# Altium integrated library Renesas Microcontroller H8.IntLib: 489 symbols (part 16 of 25)
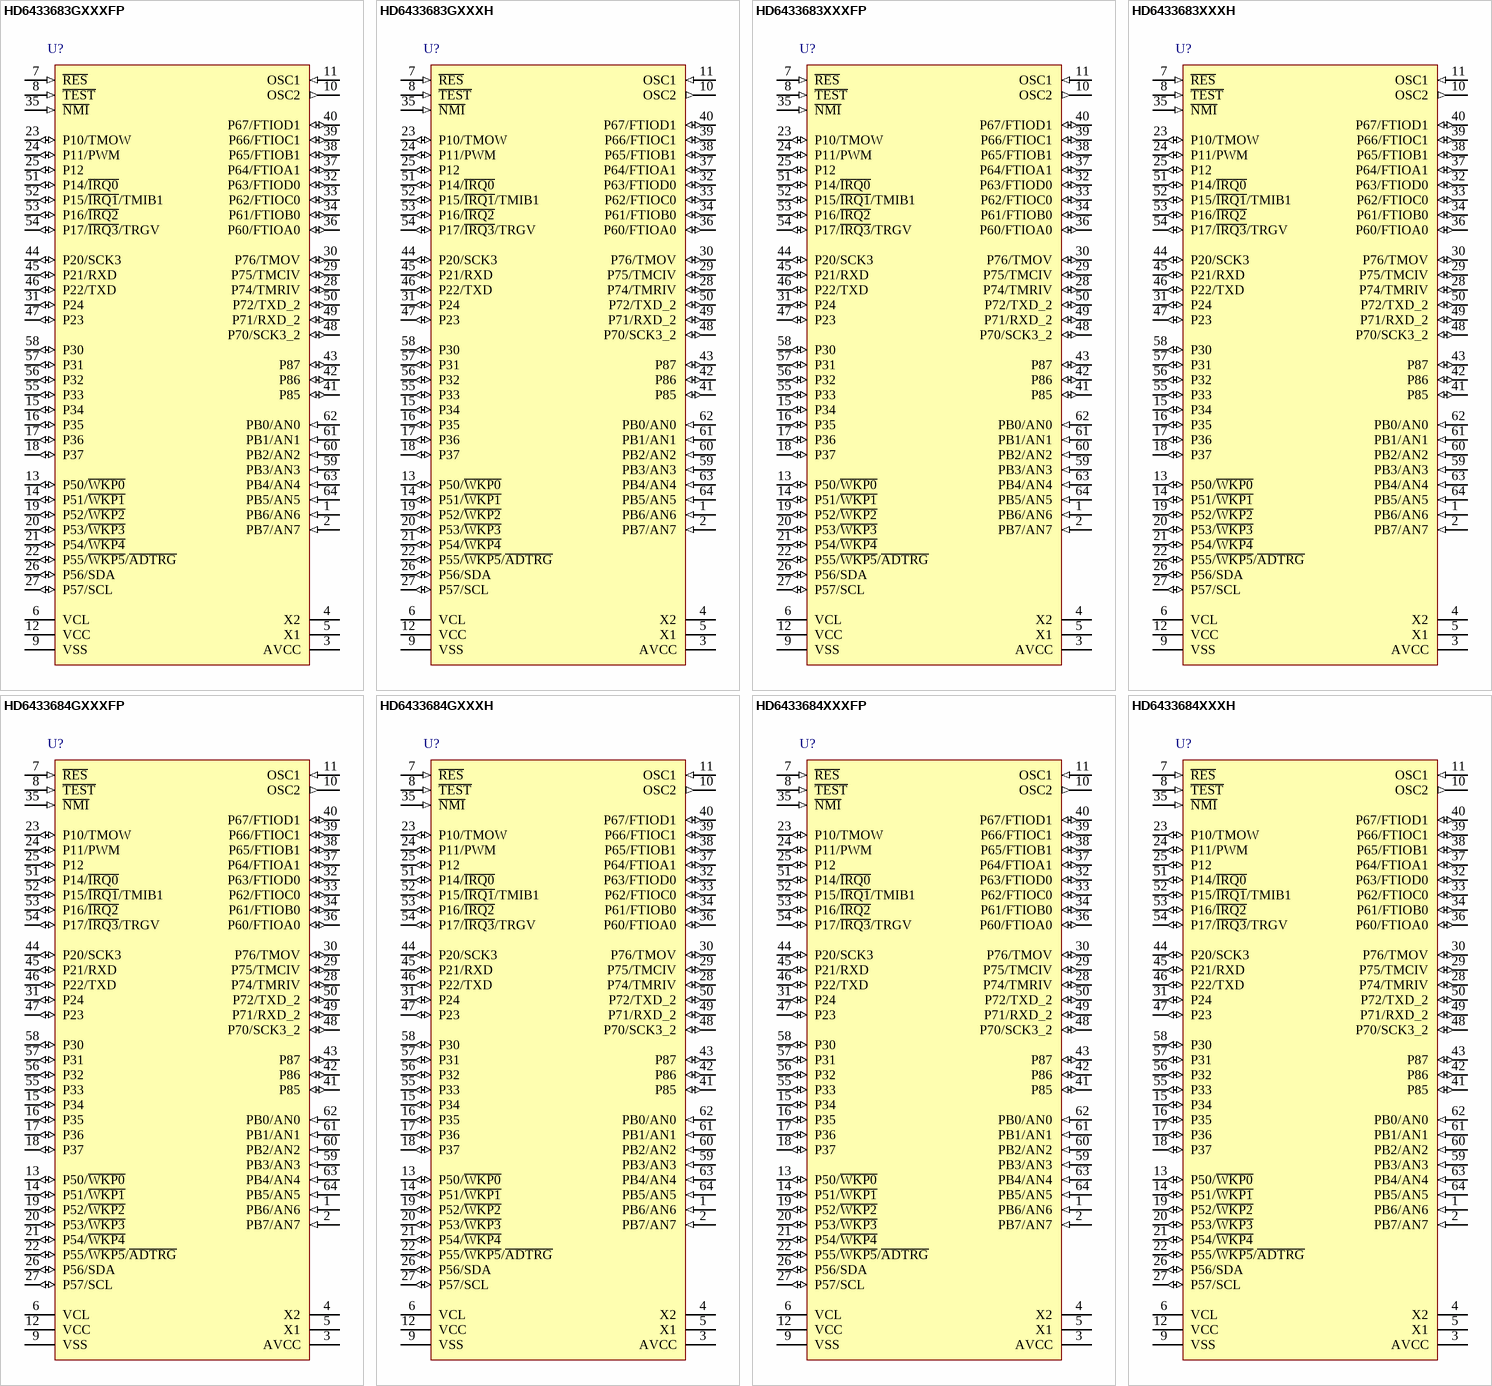
[diagram p103: symbols HD6433683GXXXFP to HD6433684XXXH]

## HD6433684XXXH
designator U?
H8 Family 32/16-bit CISC, H8/300H Tiny, 32K ROM, 3K RAM, 1 to 10MHz, 2.7 to 5.5V, 64-Pin QFP; Published: 28-Aug-2009; DatasheetVersion: Rev.5.00, Nov-2005; PackageVersion: Sep-2005; PackageReference: PRQP0064GB-A; Publisher: Altium Limited; PackageDescription: 64-Pin Plastic Quad Flat Pack, 14 x 14 x 2.7 mm Body, 0.8 mm Pitch; Code_JEITA: P-QFP64-14x14-0.80; ComponentLink1Description: Manufacturer Link; ComponentLink1URL: http://sg.renesas.com/fmwk.jsp?cnt=h8_family_landing.jsp&fp=/products/mpumcu/h8_family/; ComponentLink2Description: Datasheet; ComponentLink2URL: http://documentation.renesas.com/eng/products/mpumcu/rej09b0027_h83687.pdf; ComponentLink3Description: Packaging Specification; ComponentLink3URL: http://sg.renesas.com/media/products/common_info/package/pdf/ic/code/prqp0064gb_a.pdf
footprint PRQP0064GB-A_N (QFP, 64-Leads, Body 14x14mm, Pitch 0.8mm, IPC Medium Density)
footprint PRQP0064GB-A_L (QFP, 64-Leads, Body 14x14mm, Pitch 0.8mm, IPC High Density)
footprint PRQP0064GB-A_M (QFP, 64-Leads, Body 14x14mm, Pitch 0.8mm, IPC Low Density)
pins: 1 PB6/AN6 (in), 2 PB7/AN7 (in), 3 AVCC (power), 4 X2, 5 X1, 6 VCL (power), 7 ~{RES} (in), 8 ~{TEST} (in), 9 VSS (power), 10 OSC2 (out), 11 OSC1 (in), 12 VCC (power), 13 P50/~{WKP0} (io), 14 P51/~{WKP1} (io), 15 P34 (io), 16 P35 (io), 17 P36 (io), 18 P37 (io), 19 P52/~{WKP2} (io), 20 P53/~{WKP3} (io), 21 P54/~{WKP4} (io), 22 P55/~{WKP5}/~{ADTRG} (io), 23 P10/TMOW (io), 24 P11/PWM (io), 25 P12 (io), 26 P56/SDA (io), 27 P57/SCL (io), 28 P74/TMRIV (io), 29 P75/TMCIV (io), 30 P76/TMOV (io), 31 P24 (io), 32 P63/FTIOD0 (io), 33 P62/FTIOC0 (io), 34 P61/FTIOB0 (io), 35 ~{NMI} (in), 36 P60/FTIOA0 (io), 37 P64/FTIOA1 (io), 38 P65/FTIOB1 (io), 39 P66/FTIOC1 (io), 40 P67/FTIOD1 (io), 41 P85 (io), 42 P86 (io), 43 P87 (io), 44 P20/SCK3 (io), 45 P21/RXD (io), 46 P22/TXD (io), 47 P23 (io), 48 P70/SCK3_2 (io), 49 P71/RXD_2 (io), 50 P72/TXD_2 (io), 51 P14/~{IRQ0} (io), 52 P15/~{IRQ1}/TMIB1 (io), 53 P16/~{IRQ2} (io), 54 P17/~{IRQ3}/TRGV (io), 55 P33 (io), 56 P32 (io), 57 P31 (io), 58 P30 (io), 59 PB3/AN3 (in), 60 PB2/AN2 (in), 61 PB1/AN1 (in), 62 PB0/AN0 (in), 63 PB4/AN4 (in), 64 PB5/AN5 (in)

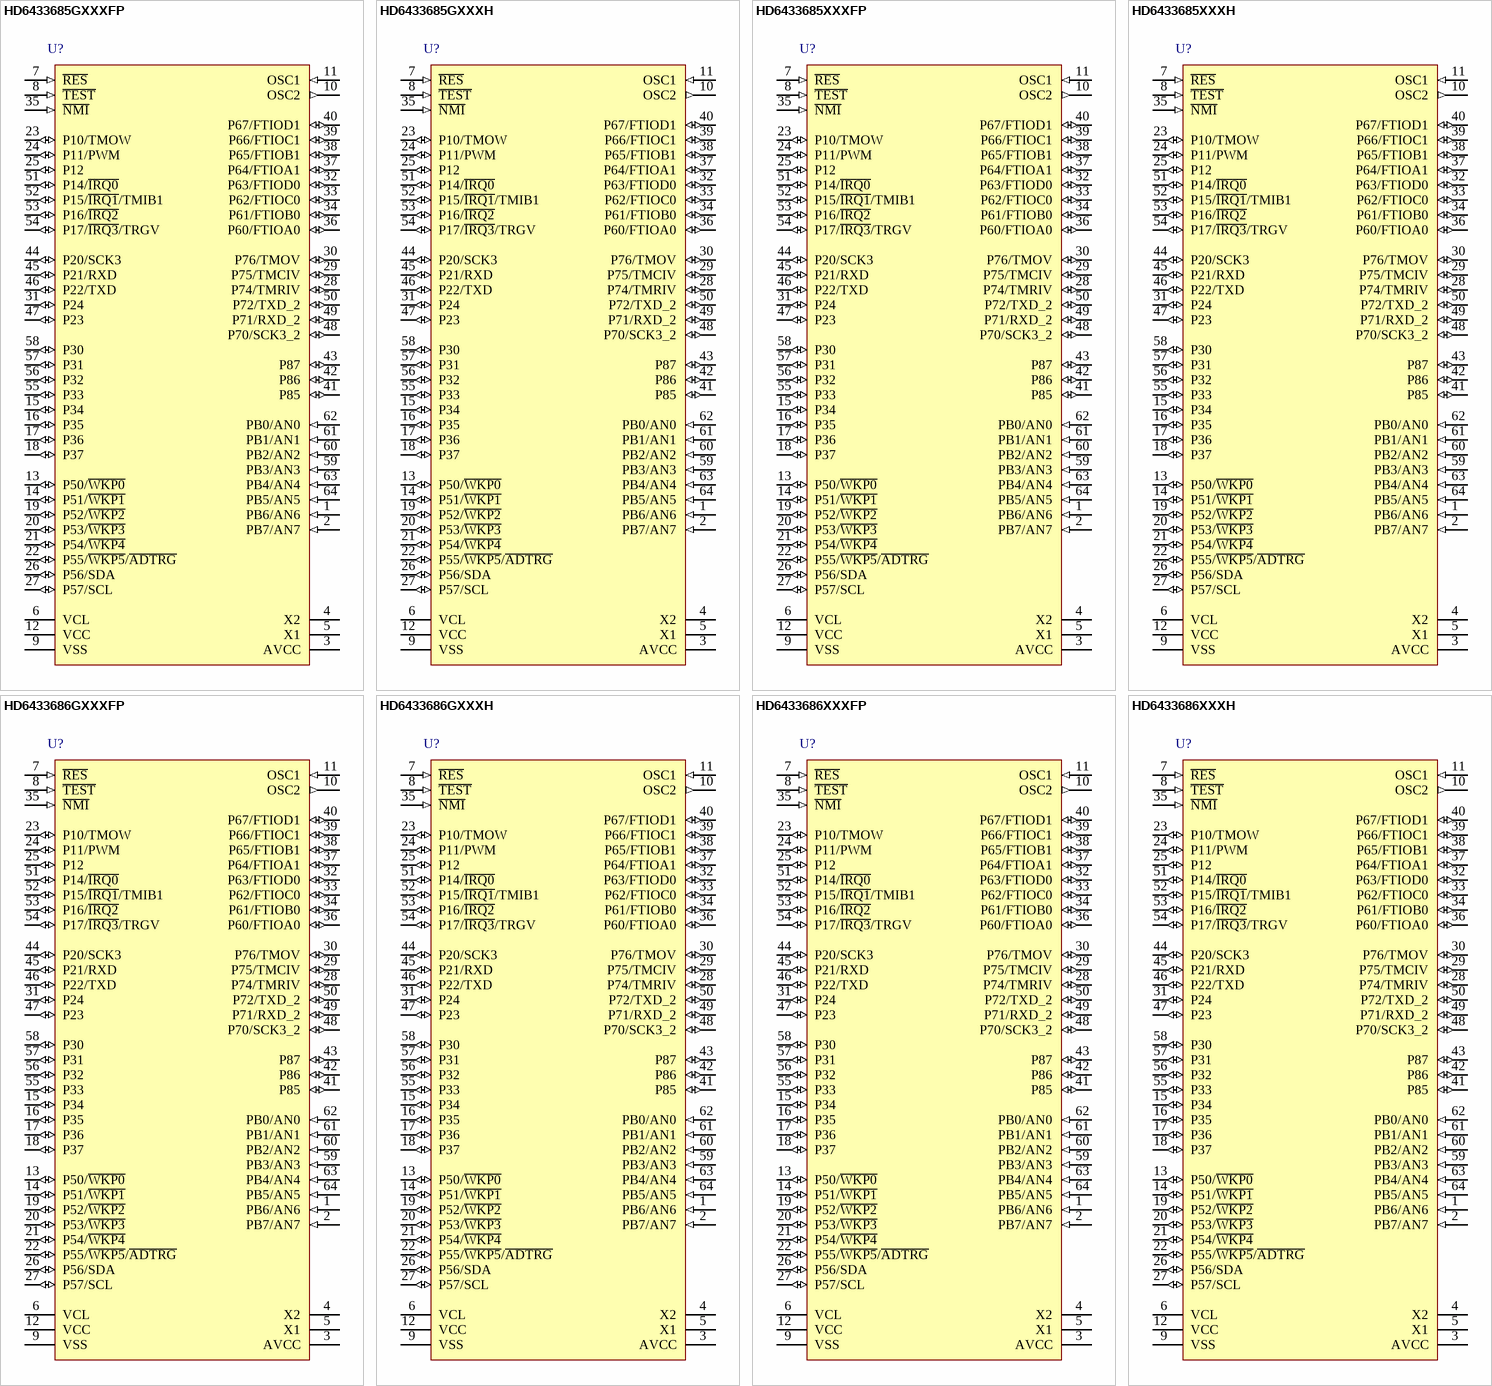
[diagram p57: symbols HD6433685GXXXFP to HD6433686XXXH]

## HD6433685GXXXFP
designator U?
H8 Family 32/16-bit CISC, H8/300H Tiny, 40K ROM, 3K RAM, 1 to 10MHz, 2.7 to 5.5V, 64-Pin QFP; Published: 28-Aug-2009; DatasheetVersion: Rev.5.00, Nov-2005; PackageVersion: Sep-2005; PackageReference: PLQP0064KC-A; Publisher: Altium Limited; PackageDescription: 64-Pin Plastic Low Profile QFP, 10 x 10 x 1.45 mm Body, 0.5 mm Pitch; Code_JEITA: P-LQFP64-10x10-0.50; Code_IPC: SQFP50P1200X1200-64; ComponentLink1Description: Manufacturer Link; ComponentLink1URL: http://sg.renesas.com/fmwk.jsp?cnt=h8_family_landing.jsp&fp=/products/mpumcu/h8_family/; ComponentLink2Description: Datasheet; ComponentLink2URL: http://documentation.renesas.com/eng/products/mpumcu/rej09b0027_h83687.pdf; ComponentLink3Description: Packaging Specification; ComponentLink3URL: http://sg.renesas.com/media/products/common_info/package/pdf/ic/code/plqp0064kc_a.pdf
footprint PLQP0064KC-A_N (Shrink QFP, 64-Leads, Body 10x10mm, Pitch 0.5mm, IPC Medium Density)
footprint PLQP0064KC-A_L (Shrink QFP, 64-Leads, Body 10x10mm, Pitch 0.5mm, IPC High Density)
footprint PLQP0064KC-A_M (Shrink QFP, 64-Leads, Body 10x10mm, Pitch 0.5mm, IPC Low Density)
pins: 1 PB6/AN6 (in), 2 PB7/AN7 (in), 3 AVCC (power), 4 X2, 5 X1, 6 VCL (power), 7 ~{RES} (in), 8 ~{TEST} (in), 9 VSS (power), 10 OSC2 (out), 11 OSC1 (in), 12 VCC (power), 13 P50/~{WKP0} (io), 14 P51/~{WKP1} (io), 15 P34 (io), 16 P35 (io), 17 P36 (io), 18 P37 (io), 19 P52/~{WKP2} (io), 20 P53/~{WKP3} (io), 21 P54/~{WKP4} (io), 22 P55/~{WKP5}/~{ADTRG} (io), 23 P10/TMOW (io), 24 P11/PWM (io), 25 P12 (io), 26 P56/SDA (io), 27 P57/SCL (io), 28 P74/TMRIV (io), 29 P75/TMCIV (io), 30 P76/TMOV (io), 31 P24 (io), 32 P63/FTIOD0 (io), 33 P62/FTIOC0 (io), 34 P61/FTIOB0 (io), 35 ~{NMI} (in), 36 P60/FTIOA0 (io), 37 P64/FTIOA1 (io), 38 P65/FTIOB1 (io), 39 P66/FTIOC1 (io), 40 P67/FTIOD1 (io), 41 P85 (io), 42 P86 (io), 43 P87 (io), 44 P20/SCK3 (io), 45 P21/RXD (io), 46 P22/TXD (io), 47 P23 (io), 48 P70/SCK3_2 (io), 49 P71/RXD_2 (io), 50 P72/TXD_2 (io), 51 P14/~{IRQ0} (io), 52 P15/~{IRQ1}/TMIB1 (io), 53 P16/~{IRQ2} (io), 54 P17/~{IRQ3}/TRGV (io), 55 P33 (io), 56 P32 (io), 57 P31 (io), 58 P30 (io), 59 PB3/AN3 (in), 60 PB2/AN2 (in), 61 PB1/AN1 (in), 62 PB0/AN0 (in), 63 PB4/AN4 (in), 64 PB5/AN5 (in)

## HD6433685GXXXH
designator U?
H8 Family 32/16-bit CISC, H8/300H Tiny, 40K ROM, 3K RAM, 1 to 10MHz, 2.7 to 5.5V, 64-Pin QFP; Published: 28-Aug-2009; DatasheetVersion: Rev.5.00, Nov-2005; PackageVersion: Sep-2005; PackageReference: PRQP0064GB-A; Publisher: Altium Limited; PackageDescription: 64-Pin Plastic Quad Flat Pack, 14 x 14 x 2.7 mm Body, 0.8 mm Pitch; Code_JEITA: P-QFP64-14x14-0.80; ComponentLink1Description: Manufacturer Link; ComponentLink1URL: http://sg.renesas.com/fmwk.jsp?cnt=h8_family_landing.jsp&fp=/products/mpumcu/h8_family/; ComponentLink2Description: Datasheet; ComponentLink2URL: http://documentation.renesas.com/eng/products/mpumcu/rej09b0027_h83687.pdf; ComponentLink3Description: Packaging Specification; ComponentLink3URL: http://sg.renesas.com/media/products/common_info/package/pdf/ic/code/prqp0064gb_a.pdf
footprint PRQP0064GB-A_N (QFP, 64-Leads, Body 14x14mm, Pitch 0.8mm, IPC Medium Density)
footprint PRQP0064GB-A_L (QFP, 64-Leads, Body 14x14mm, Pitch 0.8mm, IPC High Density)
footprint PRQP0064GB-A_M (QFP, 64-Leads, Body 14x14mm, Pitch 0.8mm, IPC Low Density)
pins: 1 PB6/AN6 (in), 2 PB7/AN7 (in), 3 AVCC (power), 4 X2, 5 X1, 6 VCL (power), 7 ~{RES} (in), 8 ~{TEST} (in), 9 VSS (power), 10 OSC2 (out), 11 OSC1 (in), 12 VCC (power), 13 P50/~{WKP0} (io), 14 P51/~{WKP1} (io), 15 P34 (io), 16 P35 (io), 17 P36 (io), 18 P37 (io), 19 P52/~{WKP2} (io), 20 P53/~{WKP3} (io), 21 P54/~{WKP4} (io), 22 P55/~{WKP5}/~{ADTRG} (io), 23 P10/TMOW (io), 24 P11/PWM (io), 25 P12 (io), 26 P56/SDA (io), 27 P57/SCL (io), 28 P74/TMRIV (io), 29 P75/TMCIV (io), 30 P76/TMOV (io), 31 P24 (io), 32 P63/FTIOD0 (io), 33 P62/FTIOC0 (io), 34 P61/FTIOB0 (io), 35 ~{NMI} (in), 36 P60/FTIOA0 (io), 37 P64/FTIOA1 (io), 38 P65/FTIOB1 (io), 39 P66/FTIOC1 (io), 40 P67/FTIOD1 (io), 41 P85 (io), 42 P86 (io), 43 P87 (io), 44 P20/SCK3 (io), 45 P21/RXD (io), 46 P22/TXD (io), 47 P23 (io), 48 P70/SCK3_2 (io), 49 P71/RXD_2 (io), 50 P72/TXD_2 (io), 51 P14/~{IRQ0} (io), 52 P15/~{IRQ1}/TMIB1 (io), 53 P16/~{IRQ2} (io), 54 P17/~{IRQ3}/TRGV (io), 55 P33 (io), 56 P32 (io), 57 P31 (io), 58 P30 (io), 59 PB3/AN3 (in), 60 PB2/AN2 (in), 61 PB1/AN1 (in), 62 PB0/AN0 (in), 63 PB4/AN4 (in), 64 PB5/AN5 (in)

## HD6433685XXXFP
designator U?
H8 Family 32/16-bit CISC, H8/300H Tiny, 40K ROM, 3K RAM, 1 to 10MHz, 2.7 to 5.5V, 64-Pin QFP; Published: 28-Aug-2009; DatasheetVersion: Rev.5.00, Nov-2005; PackageVersion: Sep-2005; PackageReference: PLQP0064KC-A; Publisher: Altium Limited; PackageDescription: 64-Pin Plastic Low Profile QFP, 10 x 10 x 1.45 mm Body, 0.5 mm Pitch; Code_JEITA: P-LQFP64-10x10-0.50; Code_IPC: SQFP50P1200X1200-64; ComponentLink1Description: Manufacturer Link; ComponentLink1URL: http://sg.renesas.com/fmwk.jsp?cnt=h8_family_landing.jsp&fp=/products/mpumcu/h8_family/; ComponentLink2Description: Datasheet; ComponentLink2URL: http://documentation.renesas.com/eng/products/mpumcu/rej09b0027_h83687.pdf; ComponentLink3Description: Packaging Specification; ComponentLink3URL: http://sg.renesas.com/media/products/common_info/package/pdf/ic/code/plqp0064kc_a.pdf
footprint PLQP0064KC-A_N (Shrink QFP, 64-Leads, Body 10x10mm, Pitch 0.5mm, IPC Medium Density)
footprint PLQP0064KC-A_L (Shrink QFP, 64-Leads, Body 10x10mm, Pitch 0.5mm, IPC High Density)
footprint PLQP0064KC-A_M (Shrink QFP, 64-Leads, Body 10x10mm, Pitch 0.5mm, IPC Low Density)
pins: 1 PB6/AN6 (in), 2 PB7/AN7 (in), 3 AVCC (power), 4 X2, 5 X1, 6 VCL (power), 7 ~{RES} (in), 8 ~{TEST} (in), 9 VSS (power), 10 OSC2 (out), 11 OSC1 (in), 12 VCC (power), 13 P50/~{WKP0} (io), 14 P51/~{WKP1} (io), 15 P34 (io), 16 P35 (io), 17 P36 (io), 18 P37 (io), 19 P52/~{WKP2} (io), 20 P53/~{WKP3} (io), 21 P54/~{WKP4} (io), 22 P55/~{WKP5}/~{ADTRG} (io), 23 P10/TMOW (io), 24 P11/PWM (io), 25 P12 (io), 26 P56/SDA (io), 27 P57/SCL (io), 28 P74/TMRIV (io), 29 P75/TMCIV (io), 30 P76/TMOV (io), 31 P24 (io), 32 P63/FTIOD0 (io), 33 P62/FTIOC0 (io), 34 P61/FTIOB0 (io), 35 ~{NMI} (in), 36 P60/FTIOA0 (io), 37 P64/FTIOA1 (io), 38 P65/FTIOB1 (io), 39 P66/FTIOC1 (io), 40 P67/FTIOD1 (io), 41 P85 (io), 42 P86 (io), 43 P87 (io), 44 P20/SCK3 (io), 45 P21/RXD (io), 46 P22/TXD (io), 47 P23 (io), 48 P70/SCK3_2 (io), 49 P71/RXD_2 (io), 50 P72/TXD_2 (io), 51 P14/~{IRQ0} (io), 52 P15/~{IRQ1}/TMIB1 (io), 53 P16/~{IRQ2} (io), 54 P17/~{IRQ3}/TRGV (io), 55 P33 (io), 56 P32 (io), 57 P31 (io), 58 P30 (io), 59 PB3/AN3 (in), 60 PB2/AN2 (in), 61 PB1/AN1 (in), 62 PB0/AN0 (in), 63 PB4/AN4 (in), 64 PB5/AN5 (in)

## HD6433685XXXH
designator U?
H8 Family 32/16-bit CISC, H8/300H Tiny, 40K ROM, 3K RAM, 1 to 10MHz, 2.7 to 5.5V, 64-Pin QFP; Published: 28-Aug-2009; DatasheetVersion: Rev.5.00, Nov-2005; PackageVersion: Sep-2005; PackageReference: PRQP0064GB-A; Publisher: Altium Limited; PackageDescription: 64-Pin Plastic Quad Flat Pack, 14 x 14 x 2.7 mm Body, 0.8 mm Pitch; Code_JEITA: P-QFP64-14x14-0.80; ComponentLink1Description: Manufacturer Link; ComponentLink1URL: http://sg.renesas.com/fmwk.jsp?cnt=h8_family_landing.jsp&fp=/products/mpumcu/h8_family/; ComponentLink2Description: Datasheet; ComponentLink2URL: http://documentation.renesas.com/eng/products/mpumcu/rej09b0027_h83687.pdf; ComponentLink3Description: Packaging Specification; ComponentLink3URL: http://sg.renesas.com/media/products/common_info/package/pdf/ic/code/prqp0064gb_a.pdf
footprint PRQP0064GB-A_N (QFP, 64-Leads, Body 14x14mm, Pitch 0.8mm, IPC Medium Density)
footprint PRQP0064GB-A_L (QFP, 64-Leads, Body 14x14mm, Pitch 0.8mm, IPC High Density)
footprint PRQP0064GB-A_M (QFP, 64-Leads, Body 14x14mm, Pitch 0.8mm, IPC Low Density)
pins: 1 PB6/AN6 (in), 2 PB7/AN7 (in), 3 AVCC (power), 4 X2, 5 X1, 6 VCL (power), 7 ~{RES} (in), 8 ~{TEST} (in), 9 VSS (power), 10 OSC2 (out), 11 OSC1 (in), 12 VCC (power), 13 P50/~{WKP0} (io), 14 P51/~{WKP1} (io), 15 P34 (io), 16 P35 (io), 17 P36 (io), 18 P37 (io), 19 P52/~{WKP2} (io), 20 P53/~{WKP3} (io), 21 P54/~{WKP4} (io), 22 P55/~{WKP5}/~{ADTRG} (io), 23 P10/TMOW (io), 24 P11/PWM (io), 25 P12 (io), 26 P56/SDA (io), 27 P57/SCL (io), 28 P74/TMRIV (io), 29 P75/TMCIV (io), 30 P76/TMOV (io), 31 P24 (io), 32 P63/FTIOD0 (io), 33 P62/FTIOC0 (io), 34 P61/FTIOB0 (io), 35 ~{NMI} (in), 36 P60/FTIOA0 (io), 37 P64/FTIOA1 (io), 38 P65/FTIOB1 (io), 39 P66/FTIOC1 (io), 40 P67/FTIOD1 (io), 41 P85 (io), 42 P86 (io), 43 P87 (io), 44 P20/SCK3 (io), 45 P21/RXD (io), 46 P22/TXD (io), 47 P23 (io), 48 P70/SCK3_2 (io), 49 P71/RXD_2 (io), 50 P72/TXD_2 (io), 51 P14/~{IRQ0} (io), 52 P15/~{IRQ1}/TMIB1 (io), 53 P16/~{IRQ2} (io), 54 P17/~{IRQ3}/TRGV (io), 55 P33 (io), 56 P32 (io), 57 P31 (io), 58 P30 (io), 59 PB3/AN3 (in), 60 PB2/AN2 (in), 61 PB1/AN1 (in), 62 PB0/AN0 (in), 63 PB4/AN4 (in), 64 PB5/AN5 (in)

## HD6433686GXXXFP
designator U?
H8 Family 32/16-bit CISC, H8/300H Tiny, 48K ROM, 3K RAM, 1 to 10MHz, 2.7 to 5.5V, 64-Pin QFP; Published: 28-Aug-2009; DatasheetVersion: Rev.5.00, Nov-2005; PackageVersion: Sep-2005; PackageReference: PLQP0064KC-A; Publisher: Altium Limited; PackageDescription: 64-Pin Plastic Low Profile QFP, 10 x 10 x 1.45 mm Body, 0.5 mm Pitch; Code_JEITA: P-LQFP64-10x10-0.50; Code_IPC: SQFP50P1200X1200-64; ComponentLink1Description: Manufacturer Link; ComponentLink1URL: http://sg.renesas.com/fmwk.jsp?cnt=h8_family_landing.jsp&fp=/products/mpumcu/h8_family/; ComponentLink2Description: Datasheet; ComponentLink2URL: http://documentation.renesas.com/eng/products/mpumcu/rej09b0027_h83687.pdf; ComponentLink3Description: Packaging Specification; ComponentLink3URL: http://sg.renesas.com/media/products/common_info/package/pdf/ic/code/plqp0064kc_a.pdf
footprint PLQP0064KC-A_N (Shrink QFP, 64-Leads, Body 10x10mm, Pitch 0.5mm, IPC Medium Density)
footprint PLQP0064KC-A_L (Shrink QFP, 64-Leads, Body 10x10mm, Pitch 0.5mm, IPC High Density)
footprint PLQP0064KC-A_M (Shrink QFP, 64-Leads, Body 10x10mm, Pitch 0.5mm, IPC Low Density)
pins: 1 PB6/AN6 (in), 2 PB7/AN7 (in), 3 AVCC (power), 4 X2, 5 X1, 6 VCL (power), 7 ~{RES} (in), 8 ~{TEST} (in), 9 VSS (power), 10 OSC2 (out), 11 OSC1 (in), 12 VCC (power), 13 P50/~{WKP0} (io), 14 P51/~{WKP1} (io), 15 P34 (io), 16 P35 (io), 17 P36 (io), 18 P37 (io), 19 P52/~{WKP2} (io), 20 P53/~{WKP3} (io), 21 P54/~{WKP4} (io), 22 P55/~{WKP5}/~{ADTRG} (io), 23 P10/TMOW (io), 24 P11/PWM (io), 25 P12 (io), 26 P56/SDA (io), 27 P57/SCL (io), 28 P74/TMRIV (io), 29 P75/TMCIV (io), 30 P76/TMOV (io), 31 P24 (io), 32 P63/FTIOD0 (io), 33 P62/FTIOC0 (io), 34 P61/FTIOB0 (io), 35 ~{NMI} (in), 36 P60/FTIOA0 (io), 37 P64/FTIOA1 (io), 38 P65/FTIOB1 (io), 39 P66/FTIOC1 (io), 40 P67/FTIOD1 (io), 41 P85 (io), 42 P86 (io), 43 P87 (io), 44 P20/SCK3 (io), 45 P21/RXD (io), 46 P22/TXD (io), 47 P23 (io), 48 P70/SCK3_2 (io), 49 P71/RXD_2 (io), 50 P72/TXD_2 (io), 51 P14/~{IRQ0} (io), 52 P15/~{IRQ1}/TMIB1 (io), 53 P16/~{IRQ2} (io), 54 P17/~{IRQ3}/TRGV (io), 55 P33 (io), 56 P32 (io), 57 P31 (io), 58 P30 (io), 59 PB3/AN3 (in), 60 PB2/AN2 (in), 61 PB1/AN1 (in), 62 PB0/AN0 (in), 63 PB4/AN4 (in), 64 PB5/AN5 (in)

## HD6433686GXXXH
designator U?
H8 Family 32/16-bit CISC, H8/300H Tiny, 48K ROM, 3K RAM, 1 to 10MHz, 2.7 to 5.5V, 64-Pin QFP; Published: 28-Aug-2009; DatasheetVersion: Rev.5.00, Nov-2005; PackageVersion: Sep-2005; PackageReference: PRQP0064GB-A; Publisher: Altium Limited; PackageDescription: 64-Pin Plastic Quad Flat Pack, 14 x 14 x 2.7 mm Body, 0.8 mm Pitch; Code_JEITA: P-QFP64-14x14-0.80; ComponentLink1Description: Manufacturer Link; ComponentLink1URL: http://sg.renesas.com/fmwk.jsp?cnt=h8_family_landing.jsp&fp=/products/mpumcu/h8_family/; ComponentLink2Description: Datasheet; ComponentLink2URL: http://documentation.renesas.com/eng/products/mpumcu/rej09b0027_h83687.pdf; ComponentLink3Description: Packaging Specification; ComponentLink3URL: http://sg.renesas.com/media/products/common_info/package/pdf/ic/code/prqp0064gb_a.pdf
footprint PRQP0064GB-A_N (QFP, 64-Leads, Body 14x14mm, Pitch 0.8mm, IPC Medium Density)
footprint PRQP0064GB-A_L (QFP, 64-Leads, Body 14x14mm, Pitch 0.8mm, IPC High Density)
footprint PRQP0064GB-A_M (QFP, 64-Leads, Body 14x14mm, Pitch 0.8mm, IPC Low Density)
pins: 1 PB6/AN6 (in), 2 PB7/AN7 (in), 3 AVCC (power), 4 X2, 5 X1, 6 VCL (power), 7 ~{RES} (in), 8 ~{TEST} (in), 9 VSS (power), 10 OSC2 (out), 11 OSC1 (in), 12 VCC (power), 13 P50/~{WKP0} (io), 14 P51/~{WKP1} (io), 15 P34 (io), 16 P35 (io), 17 P36 (io), 18 P37 (io), 19 P52/~{WKP2} (io), 20 P53/~{WKP3} (io), 21 P54/~{WKP4} (io), 22 P55/~{WKP5}/~{ADTRG} (io), 23 P10/TMOW (io), 24 P11/PWM (io), 25 P12 (io), 26 P56/SDA (io), 27 P57/SCL (io), 28 P74/TMRIV (io), 29 P75/TMCIV (io), 30 P76/TMOV (io), 31 P24 (io), 32 P63/FTIOD0 (io), 33 P62/FTIOC0 (io), 34 P61/FTIOB0 (io), 35 ~{NMI} (in), 36 P60/FTIOA0 (io), 37 P64/FTIOA1 (io), 38 P65/FTIOB1 (io), 39 P66/FTIOC1 (io), 40 P67/FTIOD1 (io), 41 P85 (io), 42 P86 (io), 43 P87 (io), 44 P20/SCK3 (io), 45 P21/RXD (io), 46 P22/TXD (io), 47 P23 (io), 48 P70/SCK3_2 (io), 49 P71/RXD_2 (io), 50 P72/TXD_2 (io), 51 P14/~{IRQ0} (io), 52 P15/~{IRQ1}/TMIB1 (io), 53 P16/~{IRQ2} (io), 54 P17/~{IRQ3}/TRGV (io), 55 P33 (io), 56 P32 (io), 57 P31 (io), 58 P30 (io), 59 PB3/AN3 (in), 60 PB2/AN2 (in), 61 PB1/AN1 (in), 62 PB0/AN0 (in), 63 PB4/AN4 (in), 64 PB5/AN5 (in)

## HD6433686XXXFP
designator U?
H8 Family 32/16-bit CISC, H8/300H Tiny, 48K ROM, 3K RAM, 1 to 10MHz, 2.7 to 5.5V, 64-Pin QFP; Published: 28-Aug-2009; DatasheetVersion: Rev.5.00, Nov-2005; PackageVersion: Sep-2005; PackageReference: PLQP0064KC-A; Publisher: Altium Limited; PackageDescription: 64-Pin Plastic Low Profile QFP, 10 x 10 x 1.45 mm Body, 0.5 mm Pitch; Code_JEITA: P-LQFP64-10x10-0.50; Code_IPC: SQFP50P1200X1200-64; ComponentLink1Description: Manufacturer Link; ComponentLink1URL: http://sg.renesas.com/fmwk.jsp?cnt=h8_family_landing.jsp&fp=/products/mpumcu/h8_family/; ComponentLink2Description: Datasheet; ComponentLink2URL: http://documentation.renesas.com/eng/products/mpumcu/rej09b0027_h83687.pdf; ComponentLink3Description: Packaging Specification; ComponentLink3URL: http://sg.renesas.com/media/products/common_info/package/pdf/ic/code/plqp0064kc_a.pdf
footprint PLQP0064KC-A_N (Shrink QFP, 64-Leads, Body 10x10mm, Pitch 0.5mm, IPC Medium Density)
footprint PLQP0064KC-A_L (Shrink QFP, 64-Leads, Body 10x10mm, Pitch 0.5mm, IPC High Density)
footprint PLQP0064KC-A_M (Shrink QFP, 64-Leads, Body 10x10mm, Pitch 0.5mm, IPC Low Density)
pins: 1 PB6/AN6 (in), 2 PB7/AN7 (in), 3 AVCC (power), 4 X2, 5 X1, 6 VCL (power), 7 ~{RES} (in), 8 ~{TEST} (in), 9 VSS (power), 10 OSC2 (out), 11 OSC1 (in), 12 VCC (power), 13 P50/~{WKP0} (io), 14 P51/~{WKP1} (io), 15 P34 (io), 16 P35 (io), 17 P36 (io), 18 P37 (io), 19 P52/~{WKP2} (io), 20 P53/~{WKP3} (io), 21 P54/~{WKP4} (io), 22 P55/~{WKP5}/~{ADTRG} (io), 23 P10/TMOW (io), 24 P11/PWM (io), 25 P12 (io), 26 P56/SDA (io), 27 P57/SCL (io), 28 P74/TMRIV (io), 29 P75/TMCIV (io), 30 P76/TMOV (io), 31 P24 (io), 32 P63/FTIOD0 (io), 33 P62/FTIOC0 (io), 34 P61/FTIOB0 (io), 35 ~{NMI} (in), 36 P60/FTIOA0 (io), 37 P64/FTIOA1 (io), 38 P65/FTIOB1 (io), 39 P66/FTIOC1 (io), 40 P67/FTIOD1 (io), 41 P85 (io), 42 P86 (io), 43 P87 (io), 44 P20/SCK3 (io), 45 P21/RXD (io), 46 P22/TXD (io), 47 P23 (io), 48 P70/SCK3_2 (io), 49 P71/RXD_2 (io), 50 P72/TXD_2 (io), 51 P14/~{IRQ0} (io), 52 P15/~{IRQ1}/TMIB1 (io), 53 P16/~{IRQ2} (io), 54 P17/~{IRQ3}/TRGV (io), 55 P33 (io), 56 P32 (io), 57 P31 (io), 58 P30 (io), 59 PB3/AN3 (in), 60 PB2/AN2 (in), 61 PB1/AN1 (in), 62 PB0/AN0 (in), 63 PB4/AN4 (in), 64 PB5/AN5 (in)

## HD6433686XXXH
designator U?
H8 Family 32/16-bit CISC, H8/300H Tiny, 48K ROM, 3K RAM, 1 to 10MHz, 2.7 to 5.5V, 64-Pin QFP; Published: 28-Aug-2009; DatasheetVersion: Rev.5.00, Nov-2005; PackageVersion: Sep-2005; PackageReference: PRQP0064GB-A; Publisher: Altium Limited; PackageDescription: 64-Pin Plastic Quad Flat Pack, 14 x 14 x 2.7 mm Body, 0.8 mm Pitch; Code_JEITA: P-QFP64-14x14-0.80; ComponentLink1Description: Manufacturer Link; ComponentLink1URL: http://sg.renesas.com/fmwk.jsp?cnt=h8_family_landing.jsp&fp=/products/mpumcu/h8_family/; ComponentLink2Description: Datasheet; ComponentLink2URL: http://documentation.renesas.com/eng/products/mpumcu/rej09b0027_h83687.pdf; ComponentLink3Description: Packaging Specification; ComponentLink3URL: http://sg.renesas.com/media/products/common_info/package/pdf/ic/code/prqp0064gb_a.pdf
footprint PRQP0064GB-A_N (QFP, 64-Leads, Body 14x14mm, Pitch 0.8mm, IPC Medium Density)
footprint PRQP0064GB-A_L (QFP, 64-Leads, Body 14x14mm, Pitch 0.8mm, IPC High Density)
footprint PRQP0064GB-A_M (QFP, 64-Leads, Body 14x14mm, Pitch 0.8mm, IPC Low Density)
pins: 1 PB6/AN6 (in), 2 PB7/AN7 (in), 3 AVCC (power), 4 X2, 5 X1, 6 VCL (power), 7 ~{RES} (in), 8 ~{TEST} (in), 9 VSS (power), 10 OSC2 (out), 11 OSC1 (in), 12 VCC (power), 13 P50/~{WKP0} (io), 14 P51/~{WKP1} (io), 15 P34 (io), 16 P35 (io), 17 P36 (io), 18 P37 (io), 19 P52/~{WKP2} (io), 20 P53/~{WKP3} (io), 21 P54/~{WKP4} (io), 22 P55/~{WKP5}/~{ADTRG} (io), 23 P10/TMOW (io), 24 P11/PWM (io), 25 P12 (io), 26 P56/SDA (io), 27 P57/SCL (io), 28 P74/TMRIV (io), 29 P75/TMCIV (io), 30 P76/TMOV (io), 31 P24 (io), 32 P63/FTIOD0 (io), 33 P62/FTIOC0 (io), 34 P61/FTIOB0 (io), 35 ~{NMI} (in), 36 P60/FTIOA0 (io), 37 P64/FTIOA1 (io), 38 P65/FTIOB1 (io), 39 P66/FTIOC1 (io), 40 P67/FTIOD1 (io), 41 P85 (io), 42 P86 (io), 43 P87 (io), 44 P20/SCK3 (io), 45 P21/RXD (io), 46 P22/TXD (io), 47 P23 (io), 48 P70/SCK3_2 (io), 49 P71/RXD_2 (io), 50 P72/TXD_2 (io), 51 P14/~{IRQ0} (io), 52 P15/~{IRQ1}/TMIB1 (io), 53 P16/~{IRQ2} (io), 54 P17/~{IRQ3}/TRGV (io), 55 P33 (io), 56 P32 (io), 57 P31 (io), 58 P30 (io), 59 PB3/AN3 (in), 60 PB2/AN2 (in), 61 PB1/AN1 (in), 62 PB0/AN0 (in), 63 PB4/AN4 (in), 64 PB5/AN5 (in)

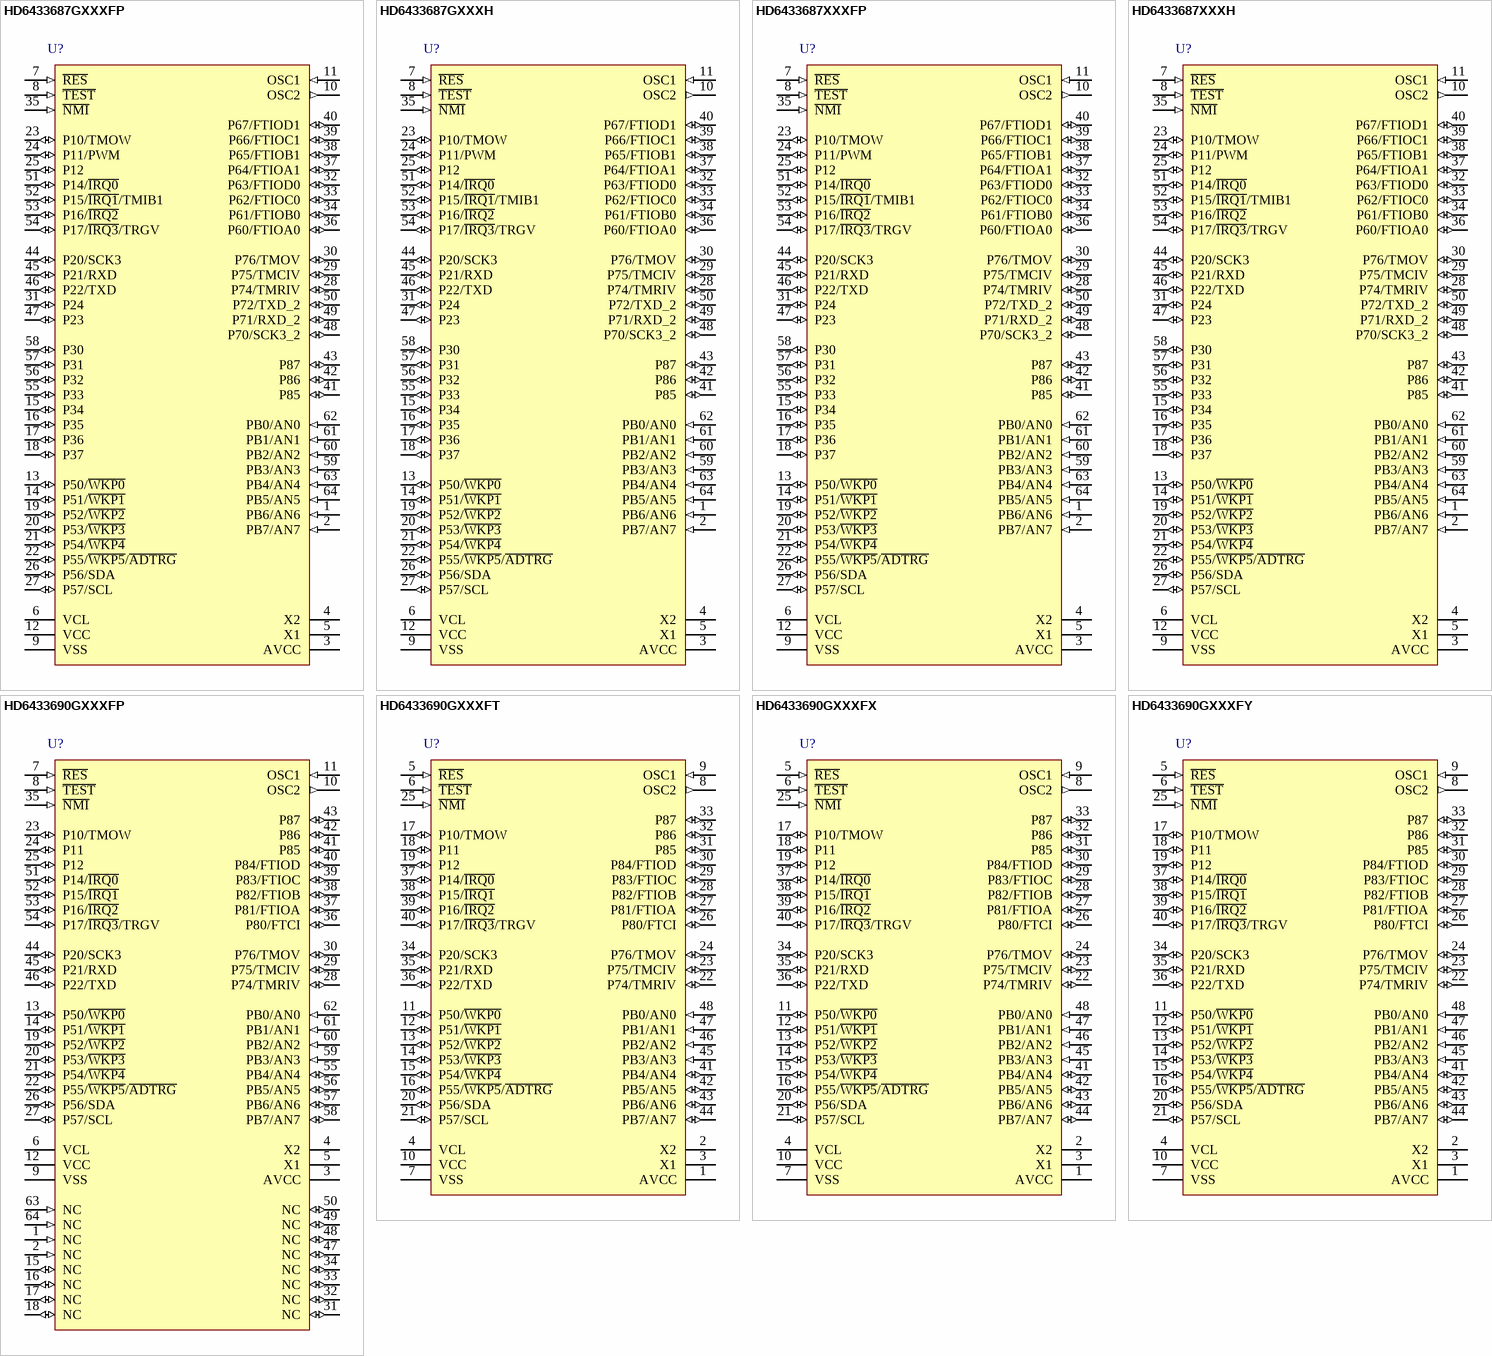
[diagram p58: symbols HD6433687GXXXFP to HD6433690GXXXFY]

## HD6433687GXXXFP
designator U?
H8 Family 32/16-bit CISC, H8/300H Tiny, 56K ROM, 3K RAM, 1 to 10MHz, 2.7 to 5.5V, 64-Pin QFP; Published: 28-Aug-2009; DatasheetVersion: Rev.5.00, Nov-2005; PackageVersion: Sep-2005; PackageReference: PLQP0064KC-A; Publisher: Altium Limited; PackageDescription: 64-Pin Plastic Low Profile QFP, 10 x 10 x 1.45 mm Body, 0.5 mm Pitch; Code_JEITA: P-LQFP64-10x10-0.50; Code_IPC: SQFP50P1200X1200-64; ComponentLink1Description: Manufacturer Link; ComponentLink1URL: http://sg.renesas.com/fmwk.jsp?cnt=h8_family_landing.jsp&fp=/products/mpumcu/h8_family/; ComponentLink2Description: Datasheet; ComponentLink2URL: http://documentation.renesas.com/eng/products/mpumcu/rej09b0027_h83687.pdf; ComponentLink3Description: Packaging Specification; ComponentLink3URL: http://sg.renesas.com/media/products/common_info/package/pdf/ic/code/plqp0064kc_a.pdf
footprint PLQP0064KC-A_N (Shrink QFP, 64-Leads, Body 10x10mm, Pitch 0.5mm, IPC Medium Density)
footprint PLQP0064KC-A_L (Shrink QFP, 64-Leads, Body 10x10mm, Pitch 0.5mm, IPC High Density)
footprint PLQP0064KC-A_M (Shrink QFP, 64-Leads, Body 10x10mm, Pitch 0.5mm, IPC Low Density)
pins: 1 PB6/AN6 (in), 2 PB7/AN7 (in), 3 AVCC (power), 4 X2, 5 X1, 6 VCL (power), 7 ~{RES} (in), 8 ~{TEST} (in), 9 VSS (power), 10 OSC2 (out), 11 OSC1 (in), 12 VCC (power), 13 P50/~{WKP0} (io), 14 P51/~{WKP1} (io), 15 P34 (io), 16 P35 (io), 17 P36 (io), 18 P37 (io), 19 P52/~{WKP2} (io), 20 P53/~{WKP3} (io), 21 P54/~{WKP4} (io), 22 P55/~{WKP5}/~{ADTRG} (io), 23 P10/TMOW (io), 24 P11/PWM (io), 25 P12 (io), 26 P56/SDA (io), 27 P57/SCL (io), 28 P74/TMRIV (io), 29 P75/TMCIV (io), 30 P76/TMOV (io), 31 P24 (io), 32 P63/FTIOD0 (io), 33 P62/FTIOC0 (io), 34 P61/FTIOB0 (io), 35 ~{NMI} (in), 36 P60/FTIOA0 (io), 37 P64/FTIOA1 (io), 38 P65/FTIOB1 (io), 39 P66/FTIOC1 (io), 40 P67/FTIOD1 (io), 41 P85 (io), 42 P86 (io), 43 P87 (io), 44 P20/SCK3 (io), 45 P21/RXD (io), 46 P22/TXD (io), 47 P23 (io), 48 P70/SCK3_2 (io), 49 P71/RXD_2 (io), 50 P72/TXD_2 (io), 51 P14/~{IRQ0} (io), 52 P15/~{IRQ1}/TMIB1 (io), 53 P16/~{IRQ2} (io), 54 P17/~{IRQ3}/TRGV (io), 55 P33 (io), 56 P32 (io), 57 P31 (io), 58 P30 (io), 59 PB3/AN3 (in), 60 PB2/AN2 (in), 61 PB1/AN1 (in), 62 PB0/AN0 (in), 63 PB4/AN4 (in), 64 PB5/AN5 (in)

## HD6433687GXXXH
designator U?
H8 Family 32/16-bit CISC, H8/300H Tiny, 56K ROM, 3K RAM, 1 to 10MHz, 2.7 to 5.5V, 64-Pin QFP; Published: 28-Aug-2009; DatasheetVersion: Rev.5.00, Nov-2005; PackageVersion: Sep-2005; PackageReference: PRQP0064GB-A; Publisher: Altium Limited; PackageDescription: 64-Pin Plastic Quad Flat Pack, 14 x 14 x 2.7 mm Body, 0.8 mm Pitch; Code_JEITA: P-QFP64-14x14-0.80; ComponentLink1Description: Manufacturer Link; ComponentLink1URL: http://sg.renesas.com/fmwk.jsp?cnt=h8_family_landing.jsp&fp=/products/mpumcu/h8_family/; ComponentLink2Description: Datasheet; ComponentLink2URL: http://documentation.renesas.com/eng/products/mpumcu/rej09b0027_h83687.pdf; ComponentLink3Description: Packaging Specification; ComponentLink3URL: http://sg.renesas.com/media/products/common_info/package/pdf/ic/code/prqp0064gb_a.pdf
footprint PRQP0064GB-A_N (QFP, 64-Leads, Body 14x14mm, Pitch 0.8mm, IPC Medium Density)
footprint PRQP0064GB-A_L (QFP, 64-Leads, Body 14x14mm, Pitch 0.8mm, IPC High Density)
footprint PRQP0064GB-A_M (QFP, 64-Leads, Body 14x14mm, Pitch 0.8mm, IPC Low Density)
pins: 1 PB6/AN6 (in), 2 PB7/AN7 (in), 3 AVCC (power), 4 X2, 5 X1, 6 VCL (power), 7 ~{RES} (in), 8 ~{TEST} (in), 9 VSS (power), 10 OSC2 (out), 11 OSC1 (in), 12 VCC (power), 13 P50/~{WKP0} (io), 14 P51/~{WKP1} (io), 15 P34 (io), 16 P35 (io), 17 P36 (io), 18 P37 (io), 19 P52/~{WKP2} (io), 20 P53/~{WKP3} (io), 21 P54/~{WKP4} (io), 22 P55/~{WKP5}/~{ADTRG} (io), 23 P10/TMOW (io), 24 P11/PWM (io), 25 P12 (io), 26 P56/SDA (io), 27 P57/SCL (io), 28 P74/TMRIV (io), 29 P75/TMCIV (io), 30 P76/TMOV (io), 31 P24 (io), 32 P63/FTIOD0 (io), 33 P62/FTIOC0 (io), 34 P61/FTIOB0 (io), 35 ~{NMI} (in), 36 P60/FTIOA0 (io), 37 P64/FTIOA1 (io), 38 P65/FTIOB1 (io), 39 P66/FTIOC1 (io), 40 P67/FTIOD1 (io), 41 P85 (io), 42 P86 (io), 43 P87 (io), 44 P20/SCK3 (io), 45 P21/RXD (io), 46 P22/TXD (io), 47 P23 (io), 48 P70/SCK3_2 (io), 49 P71/RXD_2 (io), 50 P72/TXD_2 (io), 51 P14/~{IRQ0} (io), 52 P15/~{IRQ1}/TMIB1 (io), 53 P16/~{IRQ2} (io), 54 P17/~{IRQ3}/TRGV (io), 55 P33 (io), 56 P32 (io), 57 P31 (io), 58 P30 (io), 59 PB3/AN3 (in), 60 PB2/AN2 (in), 61 PB1/AN1 (in), 62 PB0/AN0 (in), 63 PB4/AN4 (in), 64 PB5/AN5 (in)

## HD6433687XXXFP
designator U?
H8 Family 32/16-bit CISC, H8/300H Tiny, 56K ROM, 3K RAM, 1 to 10MHz, 2.7 to 5.5V, 64-Pin QFP; Published: 28-Aug-2009; DatasheetVersion: Rev.5.00, Nov-2005; PackageVersion: Sep-2005; PackageReference: PLQP0064KC-A; Publisher: Altium Limited; PackageDescription: 64-Pin Plastic Low Profile QFP, 10 x 10 x 1.45 mm Body, 0.5 mm Pitch; Code_JEITA: P-LQFP64-10x10-0.50; Code_IPC: SQFP50P1200X1200-64; ComponentLink1Description: Manufacturer Link; ComponentLink1URL: http://sg.renesas.com/fmwk.jsp?cnt=h8_family_landing.jsp&fp=/products/mpumcu/h8_family/; ComponentLink2Description: Datasheet; ComponentLink2URL: http://documentation.renesas.com/eng/products/mpumcu/rej09b0027_h83687.pdf; ComponentLink3Description: Packaging Specification; ComponentLink3URL: http://sg.renesas.com/media/products/common_info/package/pdf/ic/code/plqp0064kc_a.pdf
footprint PLQP0064KC-A_N (Shrink QFP, 64-Leads, Body 10x10mm, Pitch 0.5mm, IPC Medium Density)
footprint PLQP0064KC-A_L (Shrink QFP, 64-Leads, Body 10x10mm, Pitch 0.5mm, IPC High Density)
footprint PLQP0064KC-A_M (Shrink QFP, 64-Leads, Body 10x10mm, Pitch 0.5mm, IPC Low Density)
pins: 1 PB6/AN6 (in), 2 PB7/AN7 (in), 3 AVCC (power), 4 X2, 5 X1, 6 VCL (power), 7 ~{RES} (in), 8 ~{TEST} (in), 9 VSS (power), 10 OSC2 (out), 11 OSC1 (in), 12 VCC (power), 13 P50/~{WKP0} (io), 14 P51/~{WKP1} (io), 15 P34 (io), 16 P35 (io), 17 P36 (io), 18 P37 (io), 19 P52/~{WKP2} (io), 20 P53/~{WKP3} (io), 21 P54/~{WKP4} (io), 22 P55/~{WKP5}/~{ADTRG} (io), 23 P10/TMOW (io), 24 P11/PWM (io), 25 P12 (io), 26 P56/SDA (io), 27 P57/SCL (io), 28 P74/TMRIV (io), 29 P75/TMCIV (io), 30 P76/TMOV (io), 31 P24 (io), 32 P63/FTIOD0 (io), 33 P62/FTIOC0 (io), 34 P61/FTIOB0 (io), 35 ~{NMI} (in), 36 P60/FTIOA0 (io), 37 P64/FTIOA1 (io), 38 P65/FTIOB1 (io), 39 P66/FTIOC1 (io), 40 P67/FTIOD1 (io), 41 P85 (io), 42 P86 (io), 43 P87 (io), 44 P20/SCK3 (io), 45 P21/RXD (io), 46 P22/TXD (io), 47 P23 (io), 48 P70/SCK3_2 (io), 49 P71/RXD_2 (io), 50 P72/TXD_2 (io), 51 P14/~{IRQ0} (io), 52 P15/~{IRQ1}/TMIB1 (io), 53 P16/~{IRQ2} (io), 54 P17/~{IRQ3}/TRGV (io), 55 P33 (io), 56 P32 (io), 57 P31 (io), 58 P30 (io), 59 PB3/AN3 (in), 60 PB2/AN2 (in), 61 PB1/AN1 (in), 62 PB0/AN0 (in), 63 PB4/AN4 (in), 64 PB5/AN5 (in)

## HD6433687XXXH
designator U?
H8 Family 32/16-bit CISC, H8/300H Tiny, 56K ROM, 3K RAM, 1 to 10MHz, 2.7 to 5.5V, 64-Pin QFP; Published: 28-Aug-2009; DatasheetVersion: Rev.5.00, Nov-2005; PackageVersion: Sep-2005; PackageReference: PRQP0064GB-A; Publisher: Altium Limited; PackageDescription: 64-Pin Plastic Quad Flat Pack, 14 x 14 x 2.7 mm Body, 0.8 mm Pitch; Code_JEITA: P-QFP64-14x14-0.80; ComponentLink1Description: Manufacturer Link; ComponentLink1URL: http://sg.renesas.com/fmwk.jsp?cnt=h8_family_landing.jsp&fp=/products/mpumcu/h8_family/; ComponentLink2Description: Datasheet; ComponentLink2URL: http://documentation.renesas.com/eng/products/mpumcu/rej09b0027_h83687.pdf; ComponentLink3Description: Packaging Specification; ComponentLink3URL: http://sg.renesas.com/media/products/common_info/package/pdf/ic/code/prqp0064gb_a.pdf
footprint PRQP0064GB-A_N (QFP, 64-Leads, Body 14x14mm, Pitch 0.8mm, IPC Medium Density)
footprint PRQP0064GB-A_L (QFP, 64-Leads, Body 14x14mm, Pitch 0.8mm, IPC High Density)
footprint PRQP0064GB-A_M (QFP, 64-Leads, Body 14x14mm, Pitch 0.8mm, IPC Low Density)
pins: 1 PB6/AN6 (in), 2 PB7/AN7 (in), 3 AVCC (power), 4 X2, 5 X1, 6 VCL (power), 7 ~{RES} (in), 8 ~{TEST} (in), 9 VSS (power), 10 OSC2 (out), 11 OSC1 (in), 12 VCC (power), 13 P50/~{WKP0} (io), 14 P51/~{WKP1} (io), 15 P34 (io), 16 P35 (io), 17 P36 (io), 18 P37 (io), 19 P52/~{WKP2} (io), 20 P53/~{WKP3} (io), 21 P54/~{WKP4} (io), 22 P55/~{WKP5}/~{ADTRG} (io), 23 P10/TMOW (io), 24 P11/PWM (io), 25 P12 (io), 26 P56/SDA (io), 27 P57/SCL (io), 28 P74/TMRIV (io), 29 P75/TMCIV (io), 30 P76/TMOV (io), 31 P24 (io), 32 P63/FTIOD0 (io), 33 P62/FTIOC0 (io), 34 P61/FTIOB0 (io), 35 ~{NMI} (in), 36 P60/FTIOA0 (io), 37 P64/FTIOA1 (io), 38 P65/FTIOB1 (io), 39 P66/FTIOC1 (io), 40 P67/FTIOD1 (io), 41 P85 (io), 42 P86 (io), 43 P87 (io), 44 P20/SCK3 (io), 45 P21/RXD (io), 46 P22/TXD (io), 47 P23 (io), 48 P70/SCK3_2 (io), 49 P71/RXD_2 (io), 50 P72/TXD_2 (io), 51 P14/~{IRQ0} (io), 52 P15/~{IRQ1}/TMIB1 (io), 53 P16/~{IRQ2} (io), 54 P17/~{IRQ3}/TRGV (io), 55 P33 (io), 56 P32 (io), 57 P31 (io), 58 P30 (io), 59 PB3/AN3 (in), 60 PB2/AN2 (in), 61 PB1/AN1 (in), 62 PB0/AN0 (in), 63 PB4/AN4 (in), 64 PB5/AN5 (in)

## HD6433690GXXXFP
designator U?
H8 Family 32/16-bit CISC, H8/300H Tiny, 8K ROM, 512 RAM, 1 to 10MHz, 2.7 to 5.5V, 64-Pin QFP; Published: 28-Aug-2009; DatasheetVersion: Rev.5.00, Nov-2005; PackageVersion: Sep-2005; PackageReference: PLQP0064KC-A; Publisher: Altium Limited; PackageDescription: 64-Pin Plastic Low Profile QFP, 10 x 10 x 1.45 mm Body, 0.5 mm Pitch; Code_JEITA: P-LQFP64-10x10-0.50; Code_IPC: SQFP50P1200X1200-64; ComponentLink1Description: Manufacturer Link; ComponentLink1URL: http://sg.renesas.com/fmwk.jsp?cnt=h8_family_landing.jsp&fp=/products/mpumcu/h8_family/; ComponentLink2Description: Datasheet; ComponentLink2URL: http://documentation.renesas.com/eng/products/mpumcu/rej09b0028_h83694.pdf; ComponentLink3Description: Packaging Specification; ComponentLink3URL: http://sg.renesas.com/media/products/common_info/package/pdf/ic/code/plqp0064kc_a.pdf
footprint PLQP0064KC-A_N (Shrink QFP, 64-Leads, Body 10x10mm, Pitch 0.5mm, IPC Medium Density)
footprint PLQP0064KC-A_L (Shrink QFP, 64-Leads, Body 10x10mm, Pitch 0.5mm, IPC High Density)
footprint PLQP0064KC-A_M (Shrink QFP, 64-Leads, Body 10x10mm, Pitch 0.5mm, IPC Low Density)
pins: 1 NC (in), 2 NC (in), 3 AVCC (power), 4 X2, 5 X1, 6 VCL (power), 7 ~{RES} (in), 8 ~{TEST} (in), 9 VSS (power), 10 OSC2 (out), 11 OSC1 (in), 12 VCC (power), 13 P50/~{WKP0} (io), 14 P51/~{WKP1} (io), 15 NC (io), 16 NC (io), 17 NC (io), 18 NC (io), 19 P52/~{WKP2} (io), 20 P53/~{WKP3} (io), 21 P54/~{WKP4} (io), 22 P55/~{WKP5}/~{ADTRG} (io), 23 P10/TMOW (io), 24 P11 (io), 25 P12 (io), 26 P56/SDA (io), 27 P57/SCL (io), 28 P74/TMRIV (io), 29 P75/TMCIV (io), 30 P76/TMOV (io), 31 NC (io), 32 NC (io), 33 NC (io), 34 NC (io), 35 ~{NMI} (in), 36 P80/FTCI (io), 37 P81/FTIOA (io), 38 P82/FTIOB (io), 39 P83/FTIOC (io), 40 P84/FTIOD (io), 41 P85 (io), 42 P86 (io), 43 P87 (io), 44 P20/SCK3 (io), 45 P21/RXD (io), 46 P22/TXD (io), 47 NC (io), 48 NC (io), 49 NC (io), 50 NC (io), 51 P14/~{IRQ0} (io), 52 P15/~{IRQ1} (io), 53 P16/~{IRQ2} (io), 54 P17/~{IRQ3}/TRGV (io), 55 PB4/AN4 (io), 56 PB5/AN5 (io), 57 PB6/AN6 (io), 58 PB7/AN7 (io), 59 PB3/AN3 (in), 60 PB2/AN2 (in), 61 PB1/AN1 (in), 62 PB0/AN0 (in), 63 NC (in), 64 NC (in)

## HD6433690GXXXFT
designator U?
H8 Family 32/16-bit CISC, H8/300H Tiny, 8K ROM, 512 RAM, 1 to 10MHz, 2.7 to 5.5V, 48-Pin QFN; Published: 28-Aug-2009; DatasheetVersion: Rev.5.00, Nov-2005; PackageVersion: Sep-2005; PackageReference: PVQN0048KA-A; Publisher: Altium Limited; PackageDescription: 48-Pin Plastic Very Thin QFN, 7 x 7 X 0.9 mm Body, 0.5 mm Pitch; Code_JEITA: P-VQFN48-7x7-0.50; ComponentLink1Description: Manufacturer Link; ComponentLink1URL: http://sg.renesas.com/fmwk.jsp?cnt=h8_family_landing.jsp&fp=/products/mpumcu/h8_family/; ComponentLink2Description: Datasheet; ComponentLink2URL: http://documentation.renesas.com/eng/products/mpumcu/rej09b0028_h83694.pdf; ComponentLink3Description: Packaging Specification; ComponentLink3URL: http://sg.renesas.com/media/products/common_info/package/pdf/ic/code/pvqn0048ka_a.pdf
footprint PVQN0048KA-A_N (QFN, 48-Leads, Body 7x7mm, Pitch 0.5mm, IPC Medium Density)
footprint PVQN0048KA-A_L (QFN, 48-Leads, Body 7x7mm, Pitch 0.5mm, IPC High Density)
footprint PVQN0048KA-A_M (QFN, 48-Leads, Body 7x7mm, Pitch 0.5mm, IPC Low Density)
pins: 1 AVCC (power), 2 X2, 3 X1, 4 VCL (power), 5 ~{RES} (in), 6 ~{TEST} (in), 7 VSS (power), 8 OSC2 (out), 9 OSC1 (in), 10 VCC (power), 11 P50/~{WKP0} (io), 12 P51/~{WKP1} (io), 13 P52/~{WKP2} (io), 14 P53/~{WKP3} (io), 15 P54/~{WKP4} (io), 16 P55/~{WKP5}/~{ADTRG} (io), 17 P10/TMOW (io), 18 P11 (io), 19 P12 (io), 20 P56/SDA (io), 21 P57/SCL (io), 22 P74/TMRIV (io), 23 P75/TMCIV (io), 24 P76/TMOV (io), 25 ~{NMI} (in), 26 P80/FTCI (io), 27 P81/FTIOA (io), 28 P82/FTIOB (io), 29 P83/FTIOC (io), 30 P84/FTIOD (io), 31 P85 (io), 32 P86 (io), 33 P87 (io), 34 P20/SCK3 (io), 35 P21/RXD (io), 36 P22/TXD (io), 37 P14/~{IRQ0} (io), 38 P15/~{IRQ1} (io), 39 P16/~{IRQ2} (io), 40 P17/~{IRQ3}/TRGV (io), 41 PB4/AN4 (io), 42 PB5/AN5 (io), 43 PB6/AN6 (io), 44 PB7/AN7 (io), 45 PB3/AN3 (in), 46 PB2/AN2 (in), 47 PB1/AN1 (in), 48 PB0/AN0 (in)

## HD6433690GXXXFX
designator U?
H8 Family 32/16-bit CISC, H8/300H Tiny, 8K ROM, 512 RAM, 1 to 10MHz, 2.7 to 5.5V, 48-Pin QFP; Published: 28-Aug-2009; DatasheetVersion: Rev.5.00, Nov-2005; PackageVersion: Sep-2005; PackageReference: PLQP0048JA-A; Publisher: Altium Limited; PackageDescription: 48-Pin Plastic Low Profile QFP, 10 x 10 x 1.45 mm Body, 0.65 mm Pitch; Code_JEITA: P-LQFP48-10x10-0.65; ComponentLink1Description: Manufacturer Link; ComponentLink1URL: http://sg.renesas.com/fmwk.jsp?cnt=h8_family_landing.jsp&fp=/products/mpumcu/h8_family/; ComponentLink2Description: Datasheet; ComponentLink2URL: http://documentation.renesas.com/eng/products/mpumcu/rej09b0028_h83694.pdf; ComponentLink3Description: Packaging Specification; ComponentLink3URL: http://sg.renesas.com/media/products/common_info/package/pdf/ic/code/plqp0048ja_a.pdf
footprint PLQP0048JA-A_N (QFP, 48-Leads, Body 10x10mm, Pitch 0.65mm, IPC Medium Density)
footprint PLQP0048JA-A_L (QFP, 48-Leads, Body 10x10mm, Pitch 0.65mm, IPC High Density)
footprint PLQP0048JA-A_M (QFP, 48-Leads, Body 10x10mm, Pitch 0.65mm, IPC Low Density)
pins: 1 AVCC (power), 2 X2, 3 X1, 4 VCL (power), 5 ~{RES} (in), 6 ~{TEST} (in), 7 VSS (power), 8 OSC2 (out), 9 OSC1 (in), 10 VCC (power), 11 P50/~{WKP0} (io), 12 P51/~{WKP1} (io), 13 P52/~{WKP2} (io), 14 P53/~{WKP3} (io), 15 P54/~{WKP4} (io), 16 P55/~{WKP5}/~{ADTRG} (io), 17 P10/TMOW (io), 18 P11 (io), 19 P12 (io), 20 P56/SDA (io), 21 P57/SCL (io), 22 P74/TMRIV (io), 23 P75/TMCIV (io), 24 P76/TMOV (io), 25 ~{NMI} (in), 26 P80/FTCI (io), 27 P81/FTIOA (io), 28 P82/FTIOB (io), 29 P83/FTIOC (io), 30 P84/FTIOD (io), 31 P85 (io), 32 P86 (io), 33 P87 (io), 34 P20/SCK3 (io), 35 P21/RXD (io), 36 P22/TXD (io), 37 P14/~{IRQ0} (io), 38 P15/~{IRQ1} (io), 39 P16/~{IRQ2} (io), 40 P17/~{IRQ3}/TRGV (io), 41 PB4/AN4 (io), 42 PB5/AN5 (io), 43 PB6/AN6 (io), 44 PB7/AN7 (io), 45 PB3/AN3 (in), 46 PB2/AN2 (in), 47 PB1/AN1 (in), 48 PB0/AN0 (in)

## HD6433690GXXXFY
designator U?
H8 Family 32/16-bit CISC, H8/300H Tiny, 8K ROM, 512 RAM, 1 to 10MHz, 2.7 to 5.5V, 48-Pin QFP; Published: 28-Aug-2009; DatasheetVersion: Rev.5.00, Nov-2005; PackageVersion: Sep-2005; PackageReference: PLQP0048KC-A; Publisher: Altium Limited; PackageDescription: 48-Pin Plastic Low Profile QFP, 7 x 7 x 1.4 mm Body, 0.5 mm Pitch; Code_JEITA: P-LQFP48-7x7-0.50; Code_IPC: SQFP50P900X900-48; ComponentLink1Description: Manufacturer Link; ComponentLink1URL: http://sg.renesas.com/fmwk.jsp?cnt=h8_family_landing.jsp&fp=/products/mpumcu/h8_family/; ComponentLink2Description: Datasheet; ComponentLink2URL: http://documentation.renesas.com/eng/products/mpumcu/rej09b0028_h83694.pdf; ComponentLink3Description: Packaging Specification; ComponentLink3URL: http://sg.renesas.com/media/products/common_info/package/pdf/ic/code/plqp0048kc_a.pdf
footprint PLQP0048KC-A_N (Shrink QFP, 48-Leads, Body 7x7mm, Pitch 0.5mm, IPC Medium Density)
footprint PLQP0048KC-A_L (Shrink QFP, 48-Leads, Body 7x7mm, Pitch 0.5mm, IPC High Density)
footprint PLQP0048KC-A_M (Shrink QFP, 48-Leads, Body 7x7mm, Pitch 0.5mm, IPC Low Density)
pins: 1 AVCC (power), 2 X2, 3 X1, 4 VCL (power), 5 ~{RES} (in), 6 ~{TEST} (in), 7 VSS (power), 8 OSC2 (out), 9 OSC1 (in), 10 VCC (power), 11 P50/~{WKP0} (io), 12 P51/~{WKP1} (io), 13 P52/~{WKP2} (io), 14 P53/~{WKP3} (io), 15 P54/~{WKP4} (io), 16 P55/~{WKP5}/~{ADTRG} (io), 17 P10/TMOW (io), 18 P11 (io), 19 P12 (io), 20 P56/SDA (io), 21 P57/SCL (io), 22 P74/TMRIV (io), 23 P75/TMCIV (io), 24 P76/TMOV (io), 25 ~{NMI} (in), 26 P80/FTCI (io), 27 P81/FTIOA (io), 28 P82/FTIOB (io), 29 P83/FTIOC (io), 30 P84/FTIOD (io), 31 P85 (io), 32 P86 (io), 33 P87 (io), 34 P20/SCK3 (io), 35 P21/RXD (io), 36 P22/TXD (io), 37 P14/~{IRQ0} (io), 38 P15/~{IRQ1} (io), 39 P16/~{IRQ2} (io), 40 P17/~{IRQ3}/TRGV (io), 41 PB4/AN4 (io), 42 PB5/AN5 (io), 43 PB6/AN6 (io), 44 PB7/AN7 (io), 45 PB3/AN3 (in), 46 PB2/AN2 (in), 47 PB1/AN1 (in), 48 PB0/AN0 (in)

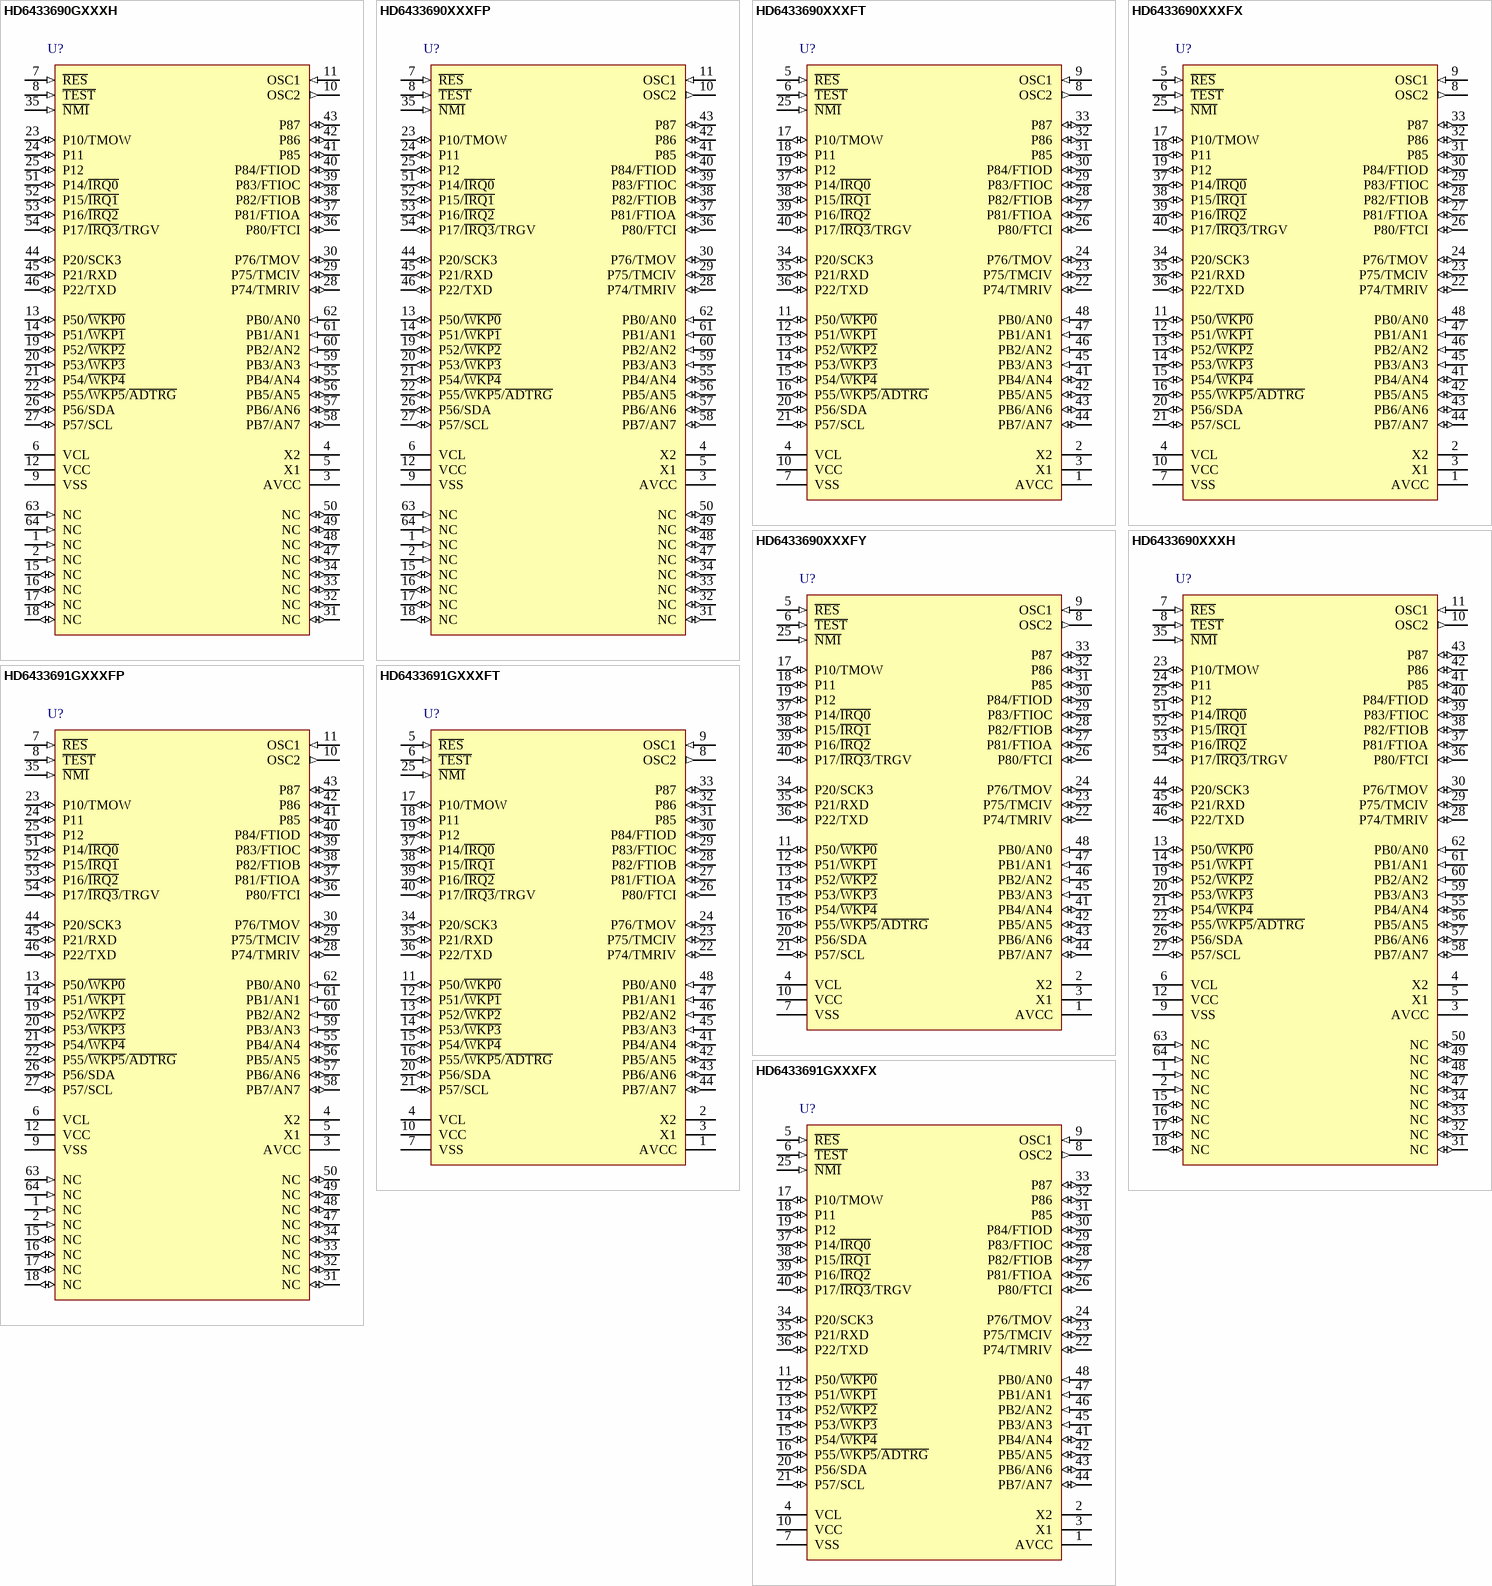
[diagram p59: symbols HD6433690GXXXH to HD6433691GXXXFX]

## HD6433690GXXXH
designator U?
H8 Family 32/16-bit CISC, H8/300H Tiny, 8K ROM, 512 RAM, 1 to 10MHz, 2.7 to 5.5V, 64-Pin QFP; Published: 28-Aug-2009; DatasheetVersion: Rev.5.00, Nov-2005; PackageVersion: Sep-2005; PackageReference: PRQP0064GB-A; Publisher: Altium Limited; PackageDescription: 64-Pin Plastic Quad Flat Pack, 14 x 14 x 2.7 mm Body, 0.8 mm Pitch; Code_JEITA: P-QFP64-14x14-0.80; ComponentLink1Description: Manufacturer Link; ComponentLink1URL: http://sg.renesas.com/fmwk.jsp?cnt=h8_family_landing.jsp&fp=/products/mpumcu/h8_family/; ComponentLink2Description: Datasheet; ComponentLink2URL: http://documentation.renesas.com/eng/products/mpumcu/rej09b0028_h83694.pdf; ComponentLink3Description: Packaging Specification; ComponentLink3URL: http://sg.renesas.com/media/products/common_info/package/pdf/ic/code/prqp0064gb_a.pdf
footprint PRQP0064GB-A_N (QFP, 64-Leads, Body 14x14mm, Pitch 0.8mm, IPC Medium Density)
footprint PRQP0064GB-A_L (QFP, 64-Leads, Body 14x14mm, Pitch 0.8mm, IPC High Density)
footprint PRQP0064GB-A_M (QFP, 64-Leads, Body 14x14mm, Pitch 0.8mm, IPC Low Density)
pins: 1 NC (in), 2 NC (in), 3 AVCC (power), 4 X2, 5 X1, 6 VCL (power), 7 ~{RES} (in), 8 ~{TEST} (in), 9 VSS (power), 10 OSC2 (out), 11 OSC1 (in), 12 VCC (power), 13 P50/~{WKP0} (io), 14 P51/~{WKP1} (io), 15 NC (io), 16 NC (io), 17 NC (io), 18 NC (io), 19 P52/~{WKP2} (io), 20 P53/~{WKP3} (io), 21 P54/~{WKP4} (io), 22 P55/~{WKP5}/~{ADTRG} (io), 23 P10/TMOW (io), 24 P11 (io), 25 P12 (io), 26 P56/SDA (io), 27 P57/SCL (io), 28 P74/TMRIV (io), 29 P75/TMCIV (io), 30 P76/TMOV (io), 31 NC (io), 32 NC (io), 33 NC (io), 34 NC (io), 35 ~{NMI} (in), 36 P80/FTCI (io), 37 P81/FTIOA (io), 38 P82/FTIOB (io), 39 P83/FTIOC (io), 40 P84/FTIOD (io), 41 P85 (io), 42 P86 (io), 43 P87 (io), 44 P20/SCK3 (io), 45 P21/RXD (io), 46 P22/TXD (io), 47 NC (io), 48 NC (io), 49 NC (io), 50 NC (io), 51 P14/~{IRQ0} (io), 52 P15/~{IRQ1} (io), 53 P16/~{IRQ2} (io), 54 P17/~{IRQ3}/TRGV (io), 55 PB4/AN4 (io), 56 PB5/AN5 (io), 57 PB6/AN6 (io), 58 PB7/AN7 (io), 59 PB3/AN3 (in), 60 PB2/AN2 (in), 61 PB1/AN1 (in), 62 PB0/AN0 (in), 63 NC (in), 64 NC (in)

## HD6433690XXXFP
designator U?
H8 Family 32/16-bit CISC, H8/300H Tiny, 8K ROM, 512 RAM, 1 to 10MHz, 2.7 to 5.5V, 64-Pin QFP; Published: 28-Aug-2009; DatasheetVersion: Rev.5.00, Nov-2005; PackageVersion: Sep-2005; PackageReference: PLQP0064KC-A; Publisher: Altium Limited; PackageDescription: 64-Pin Plastic Low Profile QFP, 10 x 10 x 1.45 mm Body, 0.5 mm Pitch; Code_JEITA: P-LQFP64-10x10-0.50; Code_IPC: SQFP50P1200X1200-64; ComponentLink1Description: Manufacturer Link; ComponentLink1URL: http://sg.renesas.com/fmwk.jsp?cnt=h8_family_landing.jsp&fp=/products/mpumcu/h8_family/; ComponentLink2Description: Datasheet; ComponentLink2URL: http://documentation.renesas.com/eng/products/mpumcu/rej09b0028_h83694.pdf; ComponentLink3Description: Packaging Specification; ComponentLink3URL: http://sg.renesas.com/media/products/common_info/package/pdf/ic/code/plqp0064kc_a.pdf
footprint PLQP0064KC-A_N (Shrink QFP, 64-Leads, Body 10x10mm, Pitch 0.5mm, IPC Medium Density)
footprint PLQP0064KC-A_L (Shrink QFP, 64-Leads, Body 10x10mm, Pitch 0.5mm, IPC High Density)
footprint PLQP0064KC-A_M (Shrink QFP, 64-Leads, Body 10x10mm, Pitch 0.5mm, IPC Low Density)
pins: 1 NC (in), 2 NC (in), 3 AVCC (power), 4 X2, 5 X1, 6 VCL (power), 7 ~{RES} (in), 8 ~{TEST} (in), 9 VSS (power), 10 OSC2 (out), 11 OSC1 (in), 12 VCC (power), 13 P50/~{WKP0} (io), 14 P51/~{WKP1} (io), 15 NC (io), 16 NC (io), 17 NC (io), 18 NC (io), 19 P52/~{WKP2} (io), 20 P53/~{WKP3} (io), 21 P54/~{WKP4} (io), 22 P55/~{WKP5}/~{ADTRG} (io), 23 P10/TMOW (io), 24 P11 (io), 25 P12 (io), 26 P56/SDA (io), 27 P57/SCL (io), 28 P74/TMRIV (io), 29 P75/TMCIV (io), 30 P76/TMOV (io), 31 NC (io), 32 NC (io), 33 NC (io), 34 NC (io), 35 ~{NMI} (in), 36 P80/FTCI (io), 37 P81/FTIOA (io), 38 P82/FTIOB (io), 39 P83/FTIOC (io), 40 P84/FTIOD (io), 41 P85 (io), 42 P86 (io), 43 P87 (io), 44 P20/SCK3 (io), 45 P21/RXD (io), 46 P22/TXD (io), 47 NC (io), 48 NC (io), 49 NC (io), 50 NC (io), 51 P14/~{IRQ0} (io), 52 P15/~{IRQ1} (io), 53 P16/~{IRQ2} (io), 54 P17/~{IRQ3}/TRGV (io), 55 PB4/AN4 (io), 56 PB5/AN5 (io), 57 PB6/AN6 (io), 58 PB7/AN7 (io), 59 PB3/AN3 (in), 60 PB2/AN2 (in), 61 PB1/AN1 (in), 62 PB0/AN0 (in), 63 NC (in), 64 NC (in)

## HD6433690XXXFT
designator U?
H8 Family 32/16-bit CISC, H8/300H Tiny, 8K ROM, 512 RAM, 1 to 10MHz, 2.7 to 5.5V, 48-Pin QFN; Published: 28-Aug-2009; DatasheetVersion: Rev.5.00, Nov-2005; PackageVersion: Sep-2005; PackageReference: PVQN0048KA-A; Publisher: Altium Limited; PackageDescription: 48-Pin Plastic Very Thin QFN, 7 x 7 X 0.9 mm Body, 0.5 mm Pitch; Code_JEITA: P-VQFN48-7x7-0.50; ComponentLink1Description: Manufacturer Link; ComponentLink1URL: http://sg.renesas.com/fmwk.jsp?cnt=h8_family_landing.jsp&fp=/products/mpumcu/h8_family/; ComponentLink2Description: Datasheet; ComponentLink2URL: http://documentation.renesas.com/eng/products/mpumcu/rej09b0028_h83694.pdf; ComponentLink3Description: Packaging Specification; ComponentLink3URL: http://sg.renesas.com/media/products/common_info/package/pdf/ic/code/pvqn0048ka_a.pdf
footprint PVQN0048KA-A_N (QFN, 48-Leads, Body 7x7mm, Pitch 0.5mm, IPC Medium Density)
footprint PVQN0048KA-A_L (QFN, 48-Leads, Body 7x7mm, Pitch 0.5mm, IPC High Density)
footprint PVQN0048KA-A_M (QFN, 48-Leads, Body 7x7mm, Pitch 0.5mm, IPC Low Density)
pins: 1 AVCC (power), 2 X2, 3 X1, 4 VCL (power), 5 ~{RES} (in), 6 ~{TEST} (in), 7 VSS (power), 8 OSC2 (out), 9 OSC1 (in), 10 VCC (power), 11 P50/~{WKP0} (io), 12 P51/~{WKP1} (io), 13 P52/~{WKP2} (io), 14 P53/~{WKP3} (io), 15 P54/~{WKP4} (io), 16 P55/~{WKP5}/~{ADTRG} (io), 17 P10/TMOW (io), 18 P11 (io), 19 P12 (io), 20 P56/SDA (io), 21 P57/SCL (io), 22 P74/TMRIV (io), 23 P75/TMCIV (io), 24 P76/TMOV (io), 25 ~{NMI} (in), 26 P80/FTCI (io), 27 P81/FTIOA (io), 28 P82/FTIOB (io), 29 P83/FTIOC (io), 30 P84/FTIOD (io), 31 P85 (io), 32 P86 (io), 33 P87 (io), 34 P20/SCK3 (io), 35 P21/RXD (io), 36 P22/TXD (io), 37 P14/~{IRQ0} (io), 38 P15/~{IRQ1} (io), 39 P16/~{IRQ2} (io), 40 P17/~{IRQ3}/TRGV (io), 41 PB4/AN4 (io), 42 PB5/AN5 (io), 43 PB6/AN6 (io), 44 PB7/AN7 (io), 45 PB3/AN3 (in), 46 PB2/AN2 (in), 47 PB1/AN1 (in), 48 PB0/AN0 (in)

## HD6433690XXXFX
designator U?
H8 Family 32/16-bit CISC, H8/300H Tiny, 8K ROM, 512 RAM, 1 to 10MHz, 2.7 to 5.5V, 48-Pin QFP; Published: 28-Aug-2009; DatasheetVersion: Rev.5.00, Nov-2005; PackageVersion: Sep-2005; PackageReference: PLQP0048JA-A; Publisher: Altium Limited; PackageDescription: 48-Pin Plastic Low Profile QFP, 10 x 10 x 1.45 mm Body, 0.65 mm Pitch; Code_JEITA: P-LQFP48-10x10-0.65; ComponentLink1Description: Manufacturer Link; ComponentLink1URL: http://sg.renesas.com/fmwk.jsp?cnt=h8_family_landing.jsp&fp=/products/mpumcu/h8_family/; ComponentLink2Description: Datasheet; ComponentLink2URL: http://documentation.renesas.com/eng/products/mpumcu/rej09b0028_h83694.pdf; ComponentLink3Description: Packaging Specification; ComponentLink3URL: http://sg.renesas.com/media/products/common_info/package/pdf/ic/code/plqp0048ja_a.pdf
footprint PLQP0048JA-A_N (QFP, 48-Leads, Body 10x10mm, Pitch 0.65mm, IPC Medium Density)
footprint PLQP0048JA-A_L (QFP, 48-Leads, Body 10x10mm, Pitch 0.65mm, IPC High Density)
footprint PLQP0048JA-A_M (QFP, 48-Leads, Body 10x10mm, Pitch 0.65mm, IPC Low Density)
pins: 1 AVCC (power), 2 X2, 3 X1, 4 VCL (power), 5 ~{RES} (in), 6 ~{TEST} (in), 7 VSS (power), 8 OSC2 (out), 9 OSC1 (in), 10 VCC (power), 11 P50/~{WKP0} (io), 12 P51/~{WKP1} (io), 13 P52/~{WKP2} (io), 14 P53/~{WKP3} (io), 15 P54/~{WKP4} (io), 16 P55/~{WKP5}/~{ADTRG} (io), 17 P10/TMOW (io), 18 P11 (io), 19 P12 (io), 20 P56/SDA (io), 21 P57/SCL (io), 22 P74/TMRIV (io), 23 P75/TMCIV (io), 24 P76/TMOV (io), 25 ~{NMI} (in), 26 P80/FTCI (io), 27 P81/FTIOA (io), 28 P82/FTIOB (io), 29 P83/FTIOC (io), 30 P84/FTIOD (io), 31 P85 (io), 32 P86 (io), 33 P87 (io), 34 P20/SCK3 (io), 35 P21/RXD (io), 36 P22/TXD (io), 37 P14/~{IRQ0} (io), 38 P15/~{IRQ1} (io), 39 P16/~{IRQ2} (io), 40 P17/~{IRQ3}/TRGV (io), 41 PB4/AN4 (io), 42 PB5/AN5 (io), 43 PB6/AN6 (io), 44 PB7/AN7 (io), 45 PB3/AN3 (in), 46 PB2/AN2 (in), 47 PB1/AN1 (in), 48 PB0/AN0 (in)

## HD6433690XXXFY
designator U?
H8 Family 32/16-bit CISC, H8/300H Tiny, 8K ROM, 512 RAM, 1 to 10MHz, 2.7 to 5.5V, 48-Pin QFP; Published: 28-Aug-2009; DatasheetVersion: Rev.5.00, Nov-2005; PackageVersion: Sep-2005; PackageReference: PLQP0048KC-A; Publisher: Altium Limited; PackageDescription: 48-Pin Plastic Low Profile QFP, 7 x 7 x 1.4 mm Body, 0.5 mm Pitch; Code_JEITA: P-LQFP48-7x7-0.50; Code_IPC: SQFP50P900X900-48; ComponentLink1Description: Manufacturer Link; ComponentLink1URL: http://sg.renesas.com/fmwk.jsp?cnt=h8_family_landing.jsp&fp=/products/mpumcu/h8_family/; ComponentLink2Description: Datasheet; ComponentLink2URL: http://documentation.renesas.com/eng/products/mpumcu/rej09b0028_h83694.pdf; ComponentLink3Description: Packaging Specification; ComponentLink3URL: http://sg.renesas.com/media/products/common_info/package/pdf/ic/code/plqp0048kc_a.pdf
footprint PLQP0048KC-A_N (Shrink QFP, 48-Leads, Body 7x7mm, Pitch 0.5mm, IPC Medium Density)
footprint PLQP0048KC-A_L (Shrink QFP, 48-Leads, Body 7x7mm, Pitch 0.5mm, IPC High Density)
footprint PLQP0048KC-A_M (Shrink QFP, 48-Leads, Body 7x7mm, Pitch 0.5mm, IPC Low Density)
pins: 1 AVCC (power), 2 X2, 3 X1, 4 VCL (power), 5 ~{RES} (in), 6 ~{TEST} (in), 7 VSS (power), 8 OSC2 (out), 9 OSC1 (in), 10 VCC (power), 11 P50/~{WKP0} (io), 12 P51/~{WKP1} (io), 13 P52/~{WKP2} (io), 14 P53/~{WKP3} (io), 15 P54/~{WKP4} (io), 16 P55/~{WKP5}/~{ADTRG} (io), 17 P10/TMOW (io), 18 P11 (io), 19 P12 (io), 20 P56/SDA (io), 21 P57/SCL (io), 22 P74/TMRIV (io), 23 P75/TMCIV (io), 24 P76/TMOV (io), 25 ~{NMI} (in), 26 P80/FTCI (io), 27 P81/FTIOA (io), 28 P82/FTIOB (io), 29 P83/FTIOC (io), 30 P84/FTIOD (io), 31 P85 (io), 32 P86 (io), 33 P87 (io), 34 P20/SCK3 (io), 35 P21/RXD (io), 36 P22/TXD (io), 37 P14/~{IRQ0} (io), 38 P15/~{IRQ1} (io), 39 P16/~{IRQ2} (io), 40 P17/~{IRQ3}/TRGV (io), 41 PB4/AN4 (io), 42 PB5/AN5 (io), 43 PB6/AN6 (io), 44 PB7/AN7 (io), 45 PB3/AN3 (in), 46 PB2/AN2 (in), 47 PB1/AN1 (in), 48 PB0/AN0 (in)

## HD6433690XXXH
designator U?
H8 Family 32/16-bit CISC, H8/300H Tiny, 8K ROM, 512 RAM, 1 to 10MHz, 2.7 to 5.5V, 64-Pin QFP; Published: 28-Aug-2009; DatasheetVersion: Rev.5.00, Nov-2005; PackageVersion: Sep-2005; PackageReference: PRQP0064GB-A; Publisher: Altium Limited; PackageDescription: 64-Pin Plastic Quad Flat Pack, 14 x 14 x 2.7 mm Body, 0.8 mm Pitch; Code_JEITA: P-QFP64-14x14-0.80; ComponentLink1Description: Manufacturer Link; ComponentLink1URL: http://sg.renesas.com/fmwk.jsp?cnt=h8_family_landing.jsp&fp=/products/mpumcu/h8_family/; ComponentLink2Description: Datasheet; ComponentLink2URL: http://documentation.renesas.com/eng/products/mpumcu/rej09b0028_h83694.pdf; ComponentLink3Description: Packaging Specification; ComponentLink3URL: http://sg.renesas.com/media/products/common_info/package/pdf/ic/code/prqp0064gb_a.pdf
footprint PRQP0064GB-A_N (QFP, 64-Leads, Body 14x14mm, Pitch 0.8mm, IPC Medium Density)
footprint PRQP0064GB-A_L (QFP, 64-Leads, Body 14x14mm, Pitch 0.8mm, IPC High Density)
footprint PRQP0064GB-A_M (QFP, 64-Leads, Body 14x14mm, Pitch 0.8mm, IPC Low Density)
pins: 1 NC (in), 2 NC (in), 3 AVCC (power), 4 X2, 5 X1, 6 VCL (power), 7 ~{RES} (in), 8 ~{TEST} (in), 9 VSS (power), 10 OSC2 (out), 11 OSC1 (in), 12 VCC (power), 13 P50/~{WKP0} (io), 14 P51/~{WKP1} (io), 15 NC (io), 16 NC (io), 17 NC (io), 18 NC (io), 19 P52/~{WKP2} (io), 20 P53/~{WKP3} (io), 21 P54/~{WKP4} (io), 22 P55/~{WKP5}/~{ADTRG} (io), 23 P10/TMOW (io), 24 P11 (io), 25 P12 (io), 26 P56/SDA (io), 27 P57/SCL (io), 28 P74/TMRIV (io), 29 P75/TMCIV (io), 30 P76/TMOV (io), 31 NC (io), 32 NC (io), 33 NC (io), 34 NC (io), 35 ~{NMI} (in), 36 P80/FTCI (io), 37 P81/FTIOA (io), 38 P82/FTIOB (io), 39 P83/FTIOC (io), 40 P84/FTIOD (io), 41 P85 (io), 42 P86 (io), 43 P87 (io), 44 P20/SCK3 (io), 45 P21/RXD (io), 46 P22/TXD (io), 47 NC (io), 48 NC (io), 49 NC (io), 50 NC (io), 51 P14/~{IRQ0} (io), 52 P15/~{IRQ1} (io), 53 P16/~{IRQ2} (io), 54 P17/~{IRQ3}/TRGV (io), 55 PB4/AN4 (io), 56 PB5/AN5 (io), 57 PB6/AN6 (io), 58 PB7/AN7 (io), 59 PB3/AN3 (in), 60 PB2/AN2 (in), 61 PB1/AN1 (in), 62 PB0/AN0 (in), 63 NC (in), 64 NC (in)